# Altium schematic symbol library NXP.SchLib: 14 symbols
Pins are listed as number, name and electrical type; pins without a type are passive.

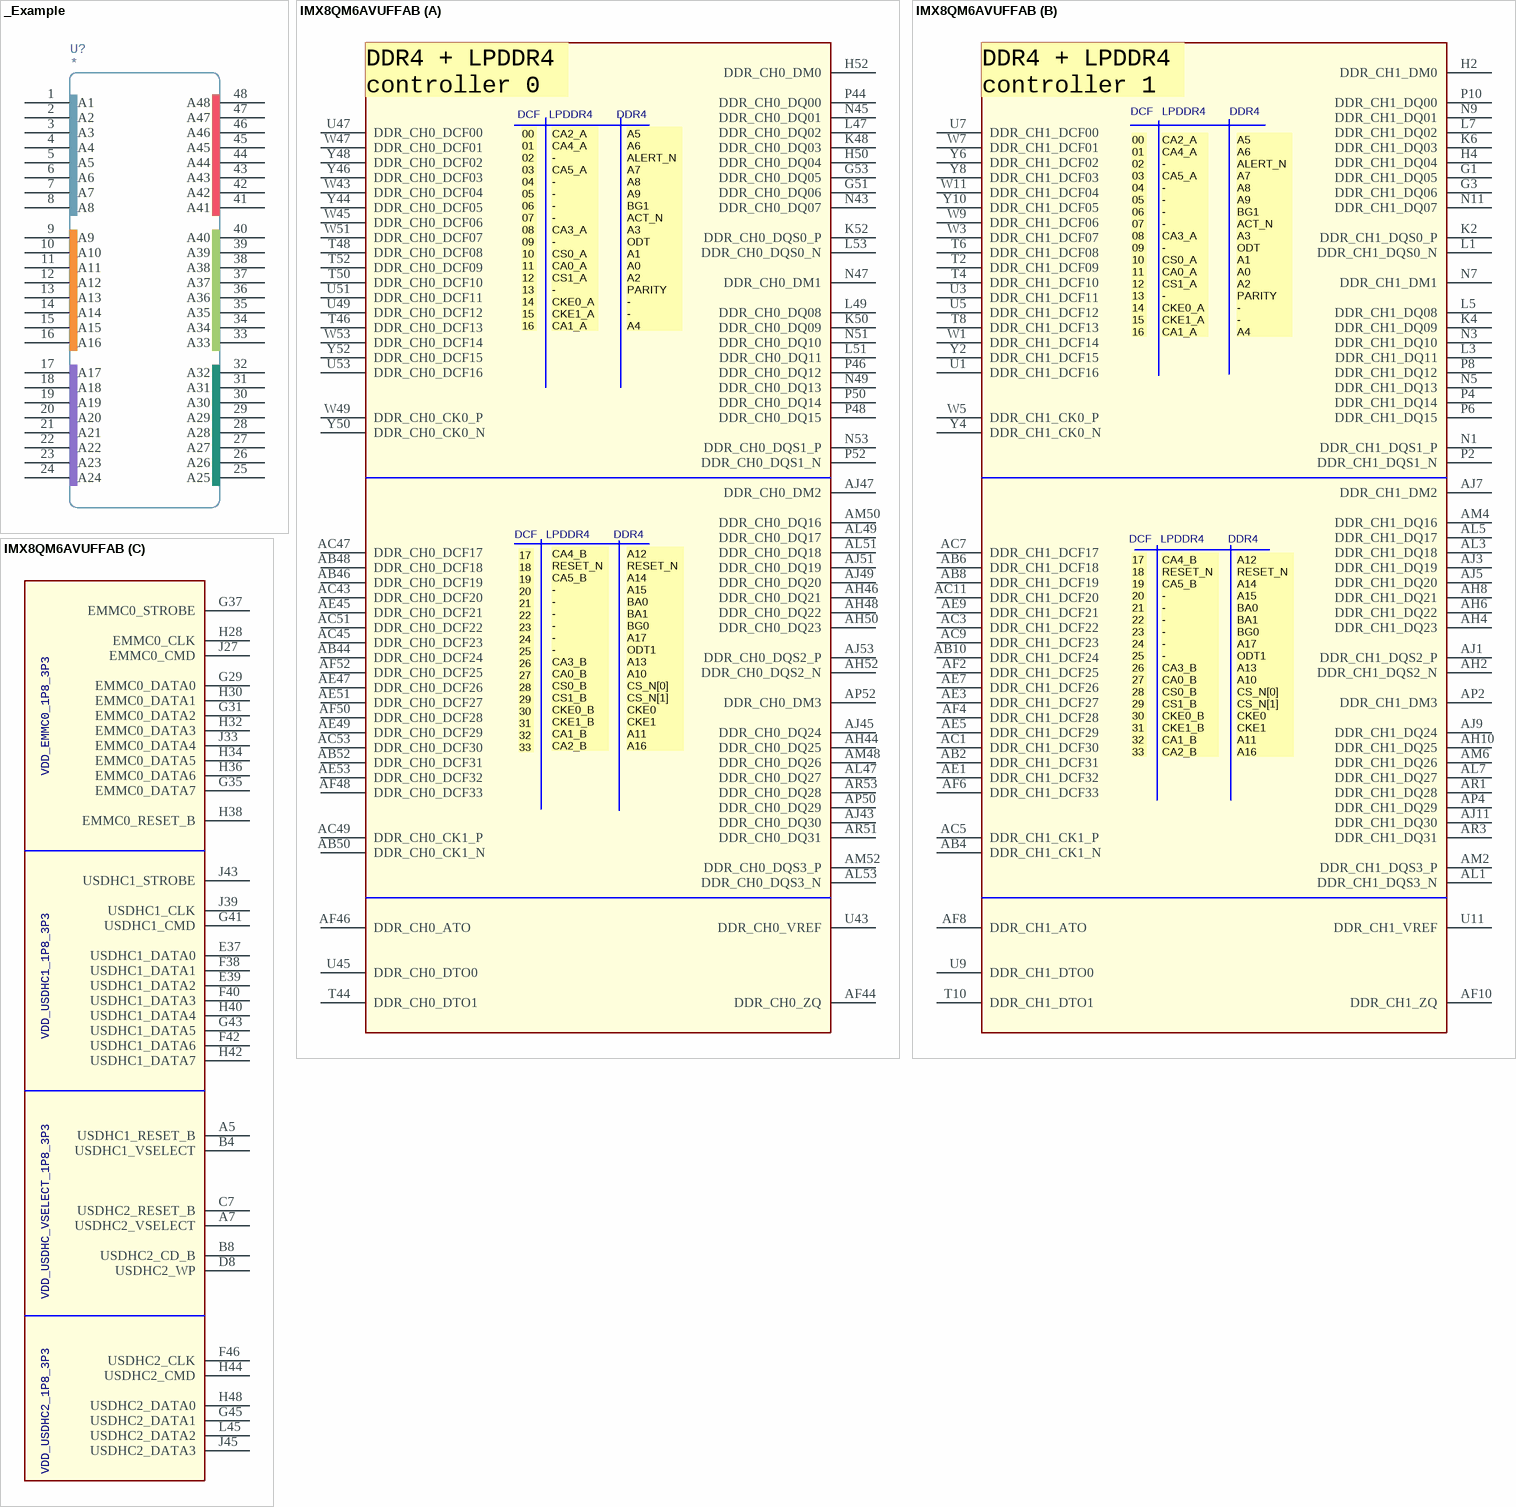
[diagram p0: symbols _Example to IMX8QM6AVUFFAB]

## _Example
designator U?
pins: 1 A1, 2 A2, 3 A3, 4 A4, 5 A5, 6 A6, 7 A7, 8 A8, 9 A9, 10 A10, 11 A11, 12 A12, 13 A13, 14 A14, 15 A15, 16 A16, 17 A17, 18 A18, 19 A19, 20 A20, 21 A21, 22 A22, 23 A23, 24 A24, 25 A25, 26 A26, 27 A27, 28 A28, 29 A29, 30 A30, 31 A31, 32 A32, 33 A33, 34 A34, 35 A35, 36 A36, 37 A37, 38 A38, 39 A39, 40 A40, 41 A41, 42 A42, 43 A43, 44 A44, 45 A45, 46 A46, 47 A47, 48 A48

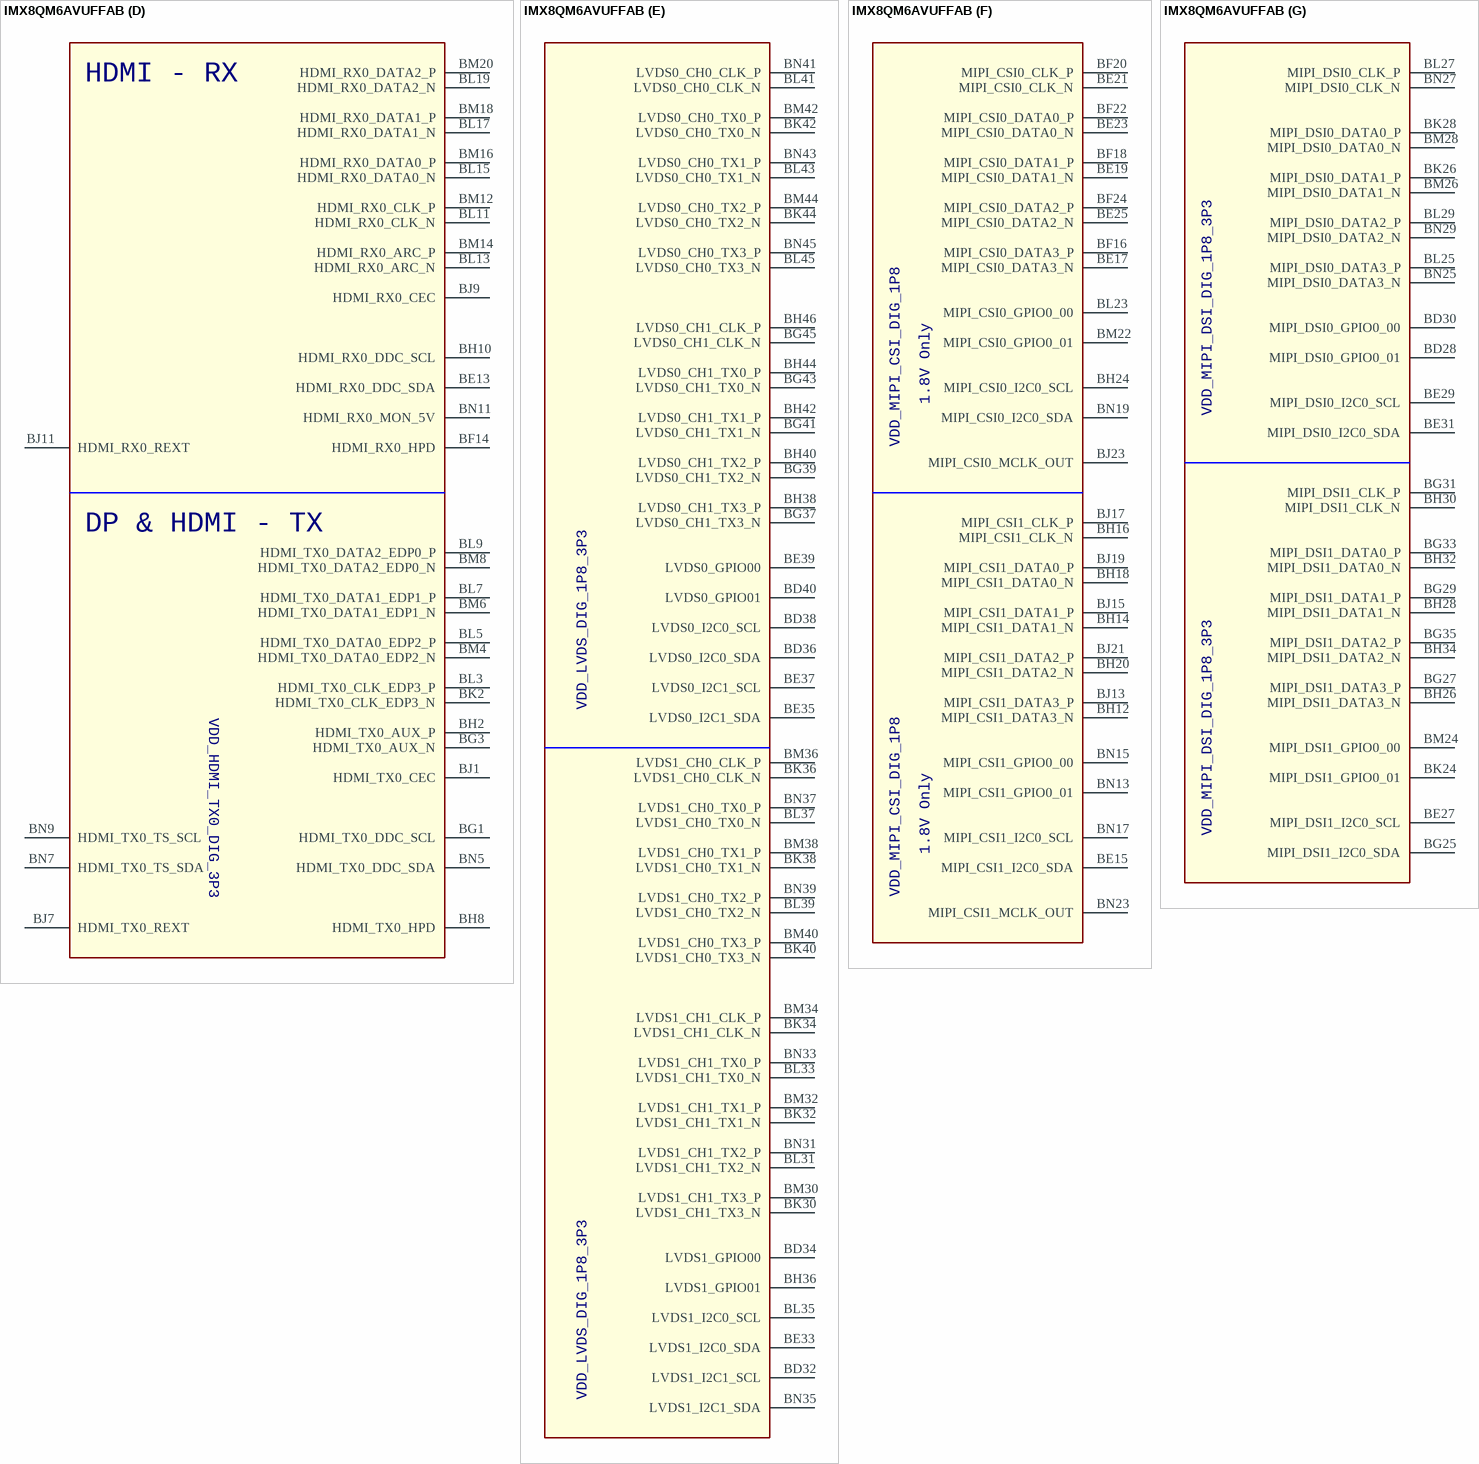
[diagram p1: symbol IMX8QM6AVUFFAB]

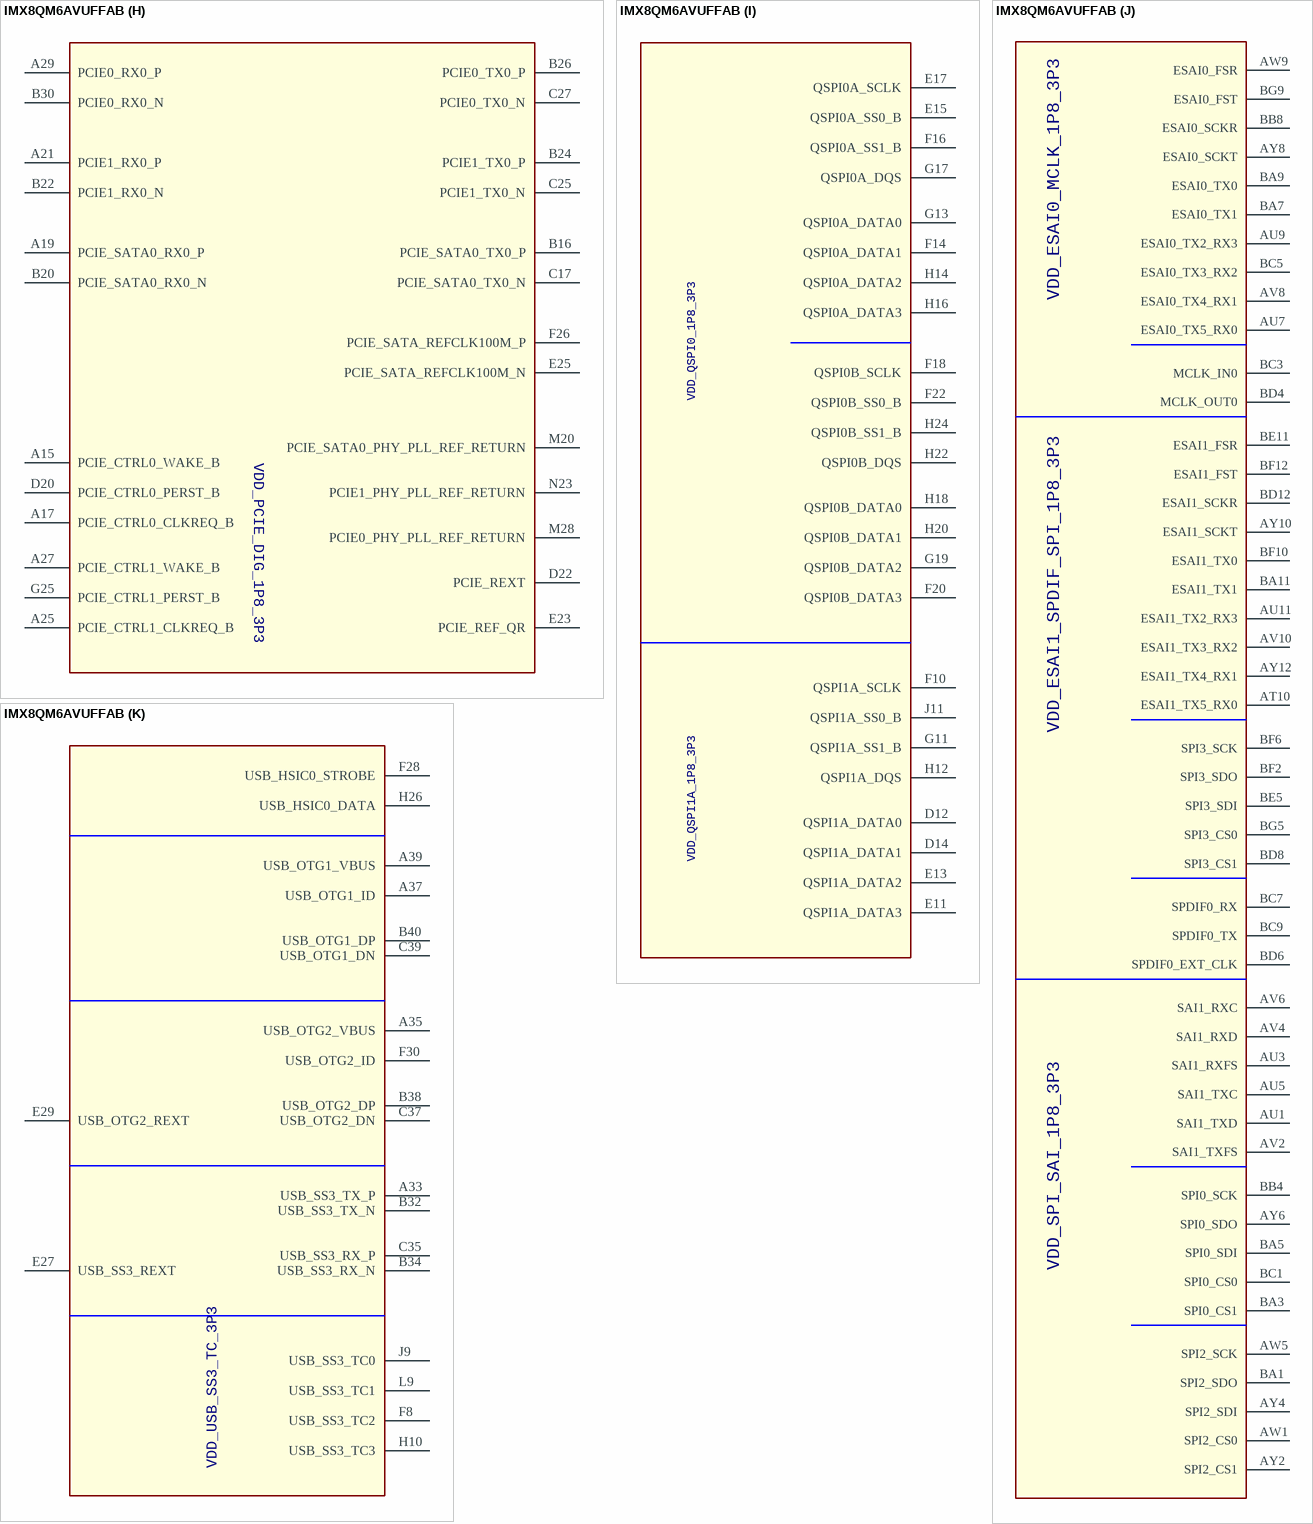
[diagram p2: symbol IMX8QM6AVUFFAB]

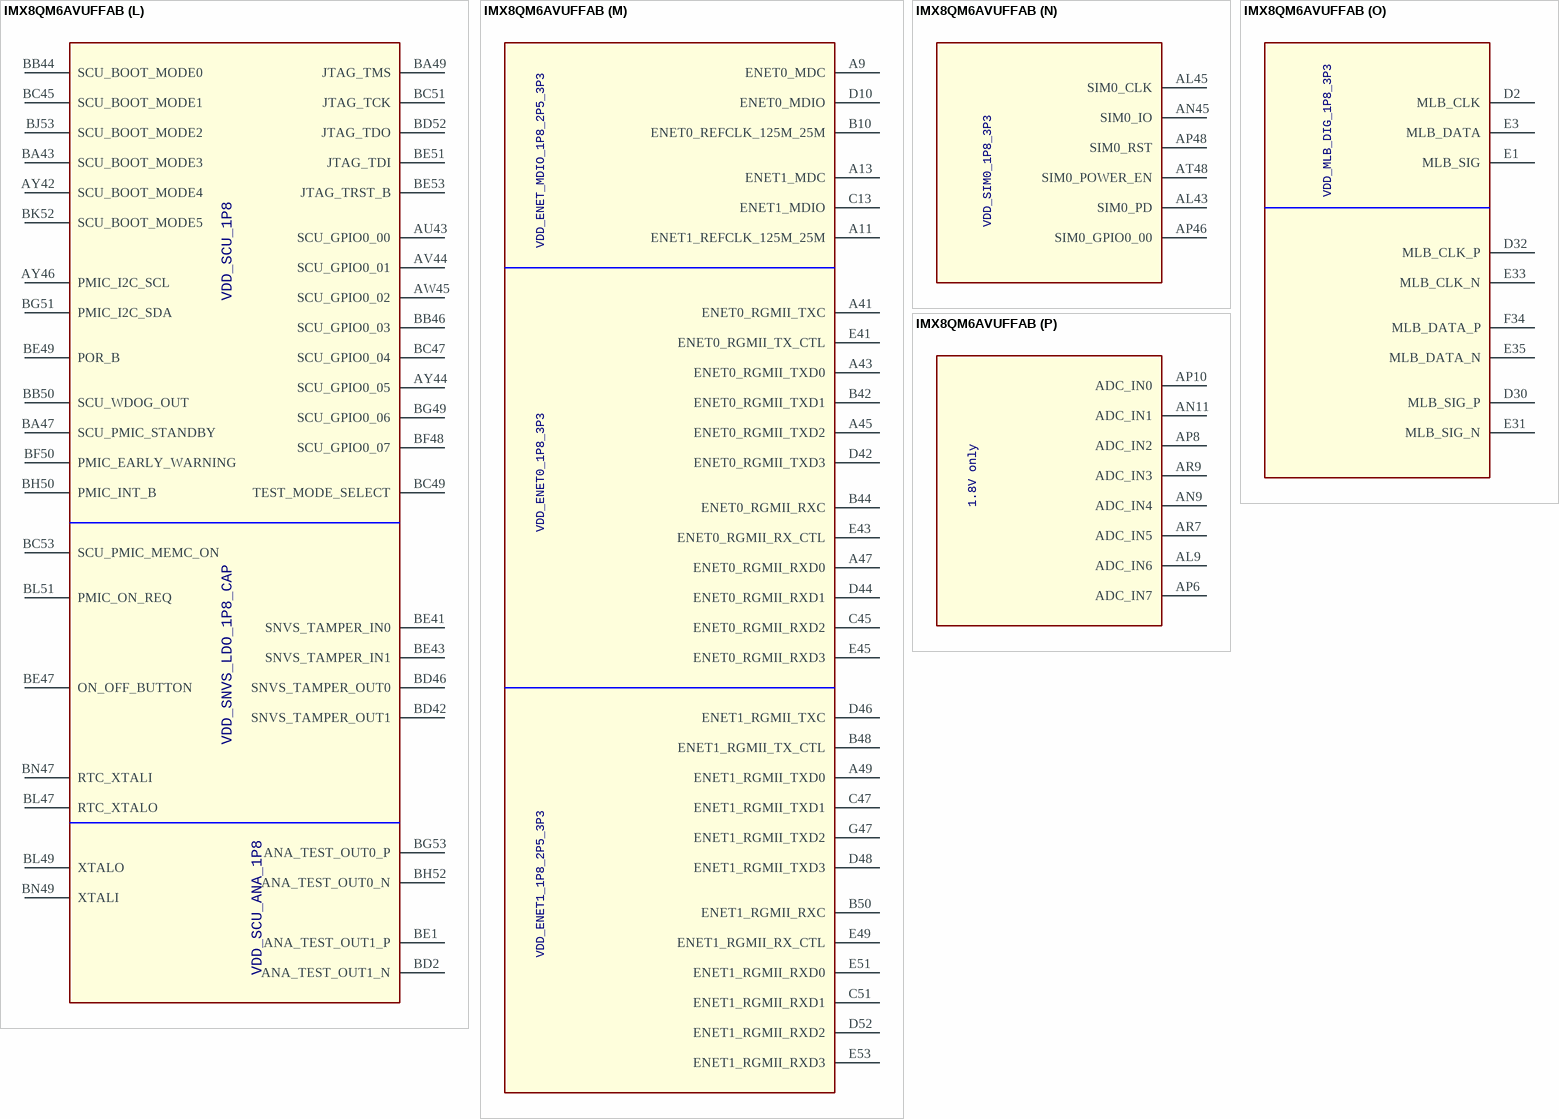
[diagram p3: symbol IMX8QM6AVUFFAB]

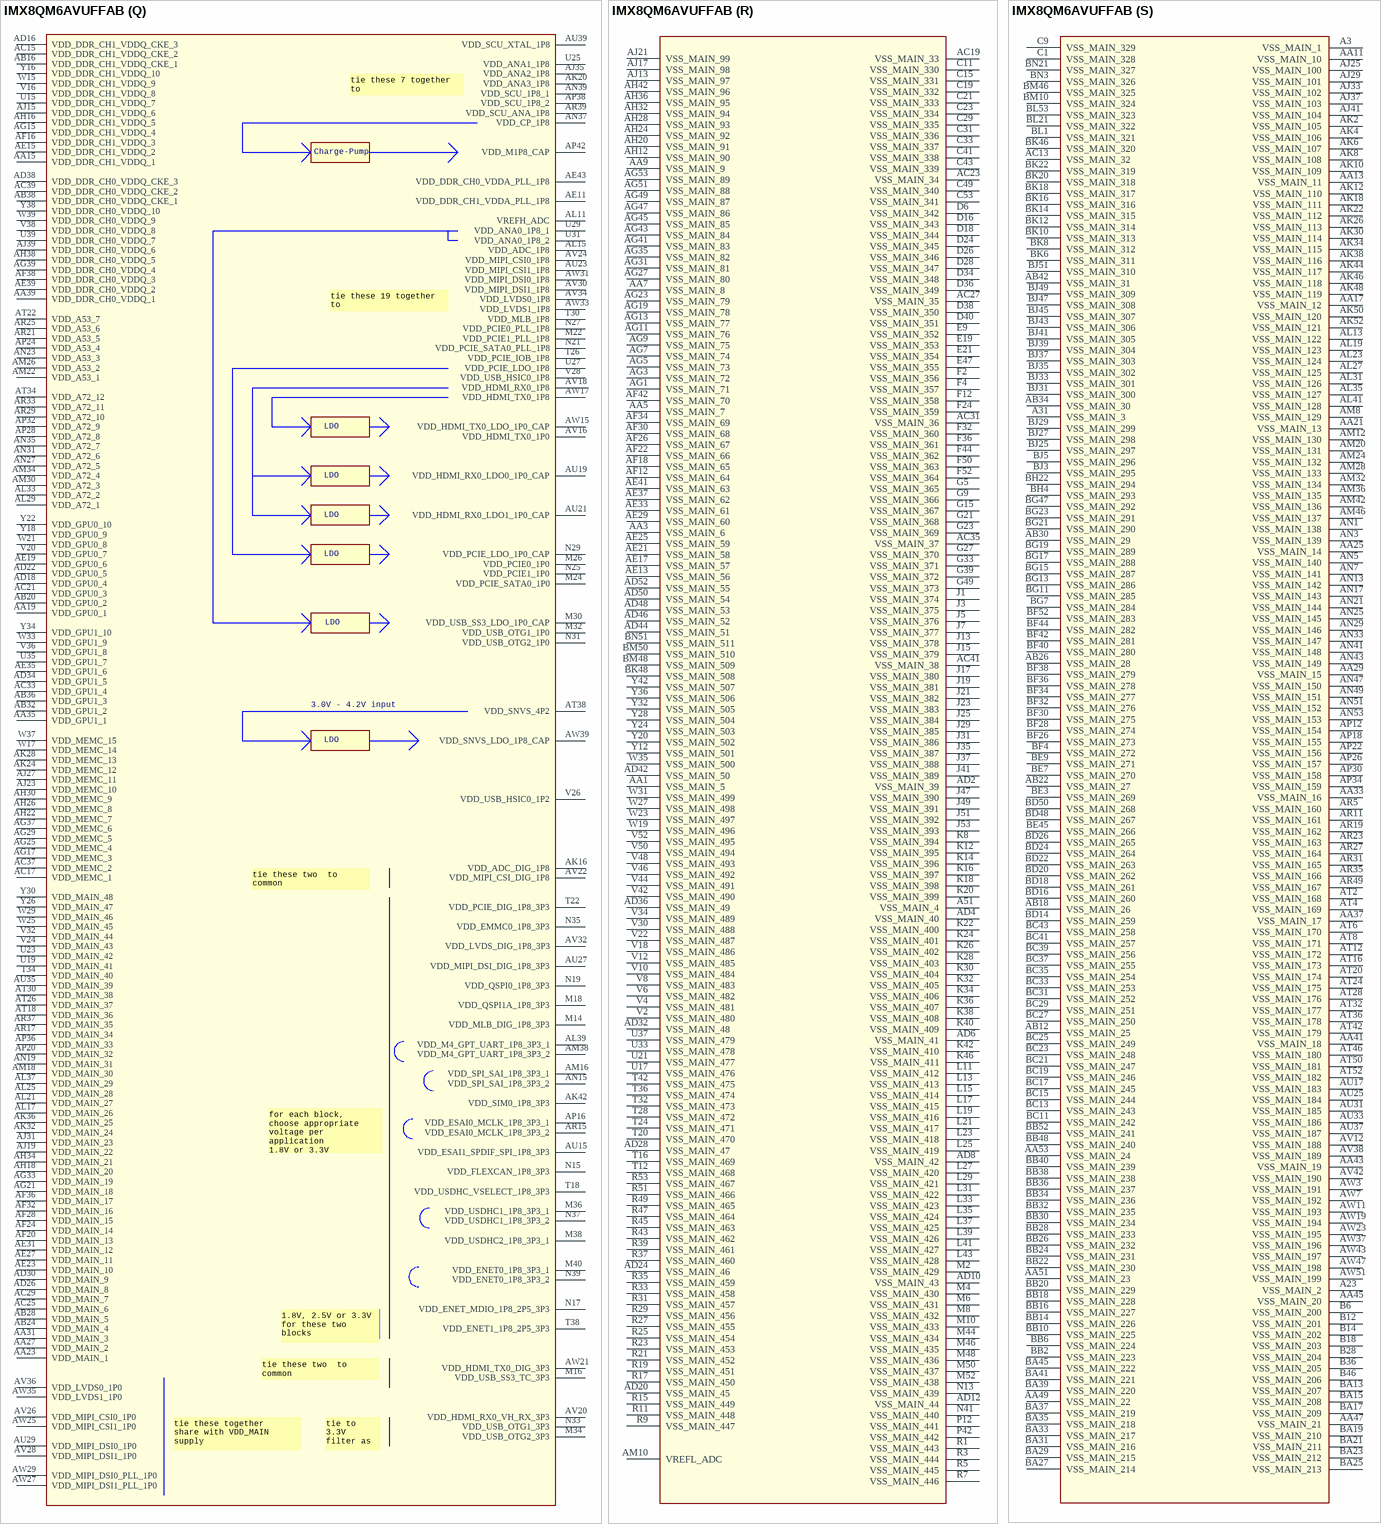
[diagram p4: symbol IMX8QM6AVUFFAB]

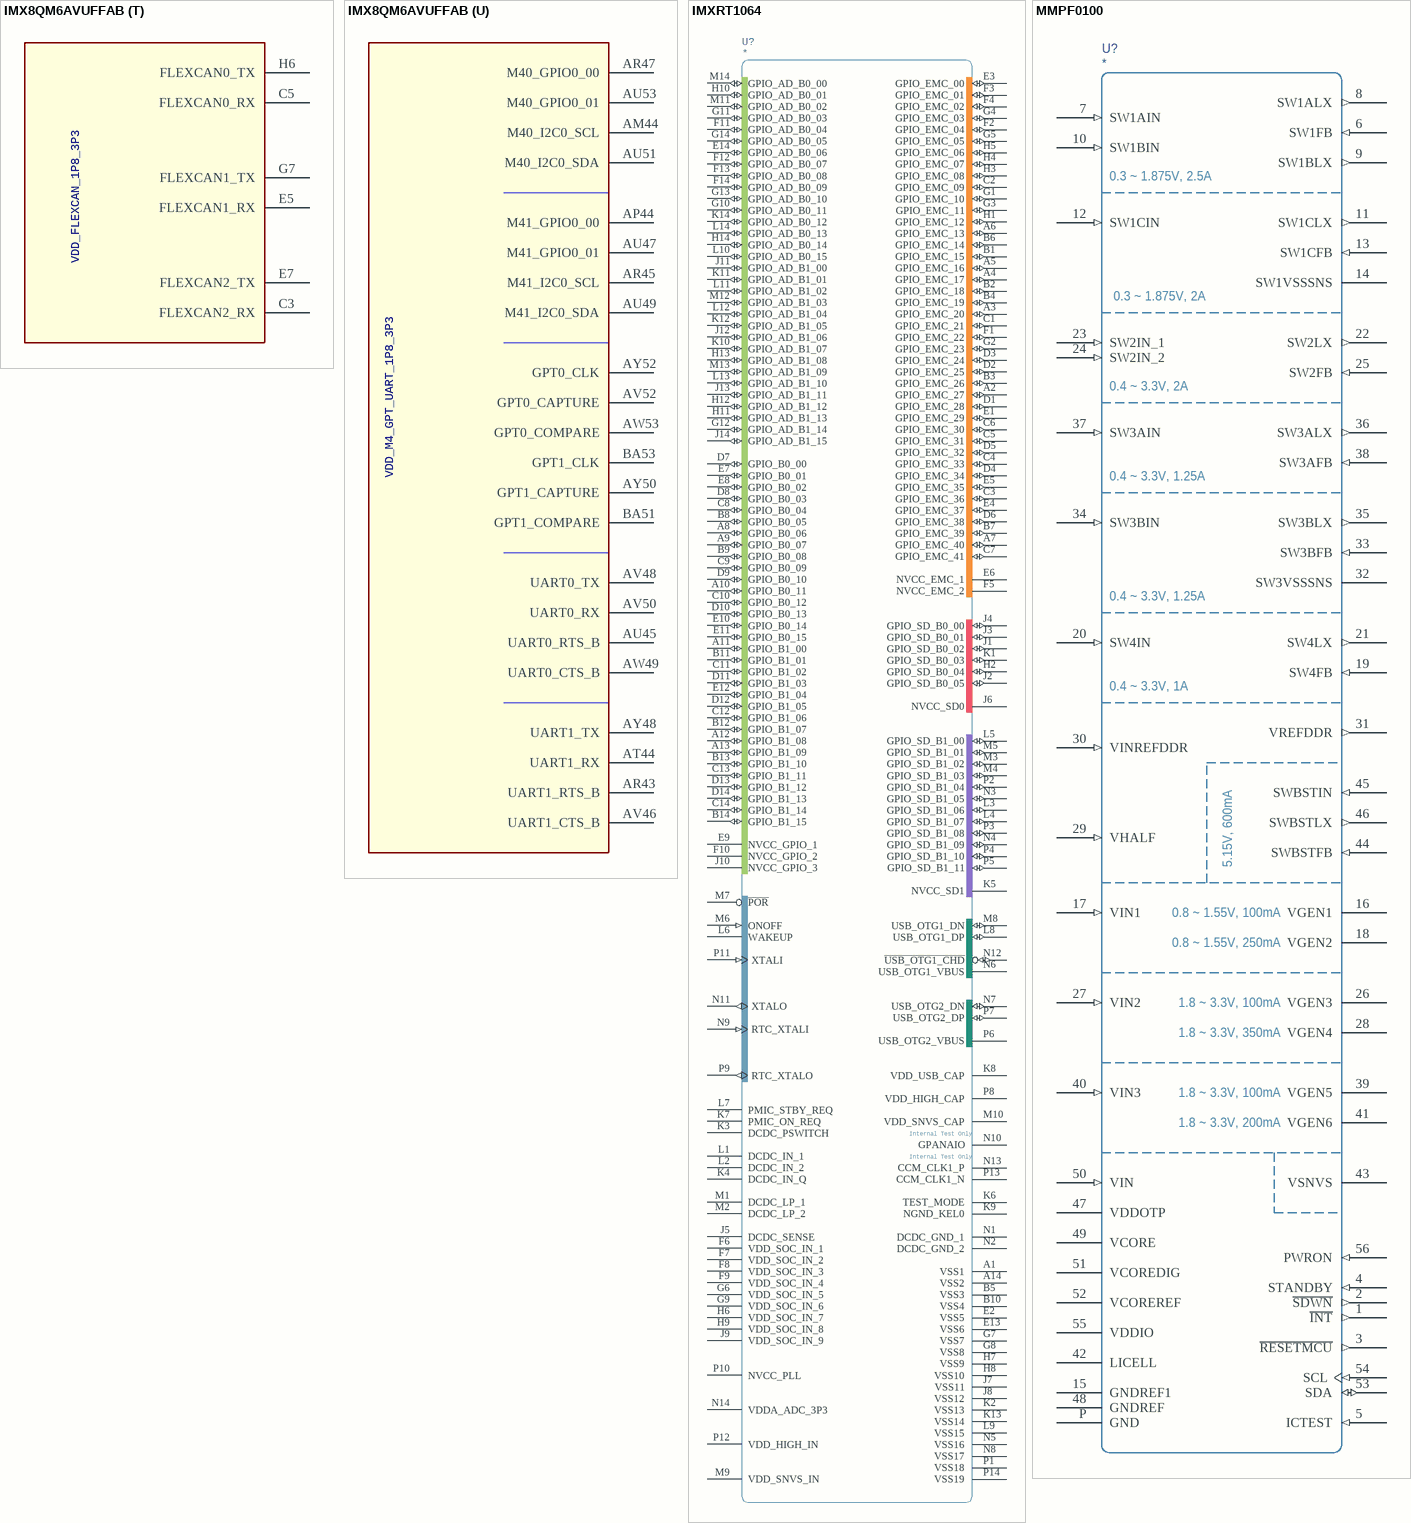
[diagram p5: symbols IMX8QM6AVUFFAB to MMPF0100]

## IMX8QM6AVUFFAB
designator U?
CLASS: IC
part A pins: AB44 DDR_CH0_DCF24, AB46 DDR_CH0_DCF19, AB48 DDR_CH0_DCF18, AB50 DDR_CH0_CK1_N, AB52 DDR_CH0_DCF31, AC43 DDR_CH0_DCF20, AC45 DDR_CH0_DCF23, AC47 DDR_CH0_DCF17, AC49 DDR_CH0_CK1_P, AC51 DDR_CH0_DCF22, AC53 DDR_CH0_DCF30, AE45 DDR_CH0_DCF21, AE47 DDR_CH0_DCF26, AE49 DDR_CH0_DCF29, AE51 DDR_CH0_DCF27, AE53 DDR_CH0_DCF32, AF44 DDR_CH0_ZQ, AF46 DDR_CH0_ATO, AF48 DDR_CH0_DCF33, AF50 DDR_CH0_DCF28, AF52 DDR_CH0_DCF25, AH44 DDR_CH0_DQ25, AH46 DDR_CH0_DQ21, AH48 DDR_CH0_DQ22, AH50 DDR_CH0_DQ23, AH52 DDR_CH0_DQS2_N, AJ43 DDR_CH0_DQ30, AJ45 DDR_CH0_DQ24, AJ47 DDR_CH0_DM2, AJ49 DDR_CH0_DQ20, AJ51 DDR_CH0_DQ19, AJ53 DDR_CH0_DQS2_P, AL47 DDR_CH0_DQ27, AL49 DDR_CH0_DQ17, AL51 DDR_CH0_DQ18, AL53 DDR_CH0_DQS3_N, AM48 DDR_CH0_DQ26, AM50 DDR_CH0_DQ16, AM52 DDR_CH0_DQS3_P, AP50 DDR_CH0_DQ29, AP52 DDR_CH0_DM3, AR51 DDR_CH0_DQ31, AR53 DDR_CH0_DQ28, G51 DDR_CH0_DQ06, G53 DDR_CH0_DQ05, H50 DDR_CH0_DQ04, H52 DDR_CH0_DM0, K48 DDR_CH0_DQ03, K50 DDR_CH0_DQ09, K52 DDR_CH0_DQS0_P, L47 DDR_CH0_DQ02, L49 DDR_CH0_DQ08, L51 DDR_CH0_DQ11, L53 DDR_CH0_DQS0_N, N43 DDR_CH0_DQ07, N45 DDR_CH0_DQ01, N47 DDR_CH0_DM1, N49 DDR_CH0_DQ13, N51 DDR_CH0_DQ10, N53 DDR_CH0_DQS1_P, P44 DDR_CH0_DQ00, P46 DDR_CH0_DQ12, P48 DDR_CH0_DQ15, P50 DDR_CH0_DQ14, P52 DDR_CH0_DQS1_N, T44 DDR_CH0_DTO1, T46 DDR_CH0_DCF13, T48 DDR_CH0_DCF08, T50 DDR_CH0_DCF10, T52 DDR_CH0_DCF09, U43 DDR_CH0_VREF, U45 DDR_CH0_DTO0, U47 DDR_CH0_DCF00, U49 DDR_CH0_DCF12, U51 DDR_CH0_DCF11, U53 DDR_CH0_DCF16, W43 DDR_CH0_DCF04, W45 DDR_CH0_DCF06, W47 DDR_CH0_DCF01, W49 DDR_CH0_CK0_P, W51 DDR_CH0_DCF07, W53 DDR_CH0_DCF14, Y44 DDR_CH0_DCF05, Y46 DDR_CH0_DCF03, Y48 DDR_CH0_DCF02, Y50 DDR_CH0_CK0_N, Y52 DDR_CH0_DCF15
part B pins: AB2 DDR_CH1_DCF31, AB4 DDR_CH1_CK1_N, AB6 DDR_CH1_DCF18, AB8 DDR_CH1_DCF19, AB10 DDR_CH1_DCF24, AC1 DDR_CH1_DCF30, AC3 DDR_CH1_DCF22, AC5 DDR_CH1_CK1_P, AC7 DDR_CH1_DCF17, AC9 DDR_CH1_DCF23, AC11 DDR_CH1_DCF20, AE1 DDR_CH1_DCF32, AE3 DDR_CH1_DCF27, AE5 DDR_CH1_DCF29, AE7 DDR_CH1_DCF26, AE9 DDR_CH1_DCF21, AF2 DDR_CH1_DCF25, AF4 DDR_CH1_DCF28, AF6 DDR_CH1_DCF33, AF8 DDR_CH1_ATO, AF10 DDR_CH1_ZQ, AH2 DDR_CH1_DQS2_N, AH4 DDR_CH1_DQ23, AH6 DDR_CH1_DQ22, AH8 DDR_CH1_DQ21, AH10 DDR_CH1_DQ25, AJ1 DDR_CH1_DQS2_P, AJ3 DDR_CH1_DQ19, AJ5 DDR_CH1_DQ20, AJ7 DDR_CH1_DM2, AJ9 DDR_CH1_DQ24, AJ11 DDR_CH1_DQ30, AL1 DDR_CH1_DQS3_N, AL3 DDR_CH1_DQ18, AL5 DDR_CH1_DQ17, AL7 DDR_CH1_DQ27, AM2 DDR_CH1_DQS3_P, AM4 DDR_CH1_DQ16, AM6 DDR_CH1_DQ26, AP2 DDR_CH1_DM3, AP4 DDR_CH1_DQ29, AR1 DDR_CH1_DQ28, AR3 DDR_CH1_DQ31, G1 DDR_CH1_DQ05, G3 DDR_CH1_DQ06, H2 DDR_CH1_DM0, H4 DDR_CH1_DQ04, K2 DDR_CH1_DQS0_P, K4 DDR_CH1_DQ09, K6 DDR_CH1_DQ03, L1 DDR_CH1_DQS0_N, L3 DDR_CH1_DQ11, L5 DDR_CH1_DQ08, L7 DDR_CH1_DQ02, N1 DDR_CH1_DQS1_P, N3 DDR_CH1_DQ10, N5 DDR_CH1_DQ13, N7 DDR_CH1_DM1, N9 DDR_CH1_DQ01, N11 DDR_CH1_DQ07, P2 DDR_CH1_DQS1_N, P4 DDR_CH1_DQ14, P6 DDR_CH1_DQ15, P8 DDR_CH1_DQ12, P10 DDR_CH1_DQ00, T2 DDR_CH1_DCF09, T4 DDR_CH1_DCF10, T6 DDR_CH1_DCF08, T8 DDR_CH1_DCF13, T10 DDR_CH1_DTO1, U1 DDR_CH1_DCF16, U3 DDR_CH1_DCF11, U5 DDR_CH1_DCF12, U7 DDR_CH1_DCF00, U9 DDR_CH1_DTO0, U11 DDR_CH1_VREF, W1 DDR_CH1_DCF14, W3 DDR_CH1_DCF07, W5 DDR_CH1_CK0_P, W7 DDR_CH1_DCF01, W9 DDR_CH1_DCF06, W11 DDR_CH1_DCF04, Y2 DDR_CH1_DCF15, Y4 DDR_CH1_CK0_N, Y6 DDR_CH1_DCF02, Y8 DDR_CH1_DCF03, Y10 DDR_CH1_DCF05
part C pins: A5 USDHC1_RESET_B, A7 USDHC2_VSELECT, B4 USDHC1_VSELECT, B8 USDHC2_CD_B, C7 USDHC2_RESET_B, D8 USDHC2_WP, E37 USDHC1_DATA0, E39 USDHC1_DATA2, F38 USDHC1_DATA1, F40 USDHC1_DATA3, F42 USDHC1_DATA6, F46 USDHC2_CLK, G29 EMMC0_DATA0, G31 EMMC0_DATA2, G35 EMMC0_DATA7, G37 EMMC0_STROBE, G41 USDHC1_CMD, G43 USDHC1_DATA5, G45 USDHC2_DATA1, H28 EMMC0_CLK, H30 EMMC0_DATA1, H32 EMMC0_DATA3, H34 EMMC0_DATA5, H36 EMMC0_DATA6, H38 EMMC0_RESET_B, H40 USDHC1_DATA4, H42 USDHC1_DATA7, H44 USDHC2_CMD, H48 USDHC2_DATA0, J27 EMMC0_CMD, J33 EMMC0_DATA4, J39 USDHC1_CLK, J43 USDHC1_STROBE, J45 USDHC2_DATA3, L45 USDHC2_DATA2
part D pins: BE13 HDMI_RX0_DDC_SDA, BF14 HDMI_RX0_HPD, BG1 HDMI_TX0_DDC_SCL, BG3 HDMI_TX0_AUX_N, BH2 HDMI_TX0_AUX_P, BH8 HDMI_TX0_HPD, BH10 HDMI_RX0_DDC_SCL, BJ1 HDMI_TX0_CEC, BJ7 HDMI_TX0_REXT, BJ9 HDMI_RX0_CEC, BJ11 HDMI_RX0_REXT, BK2 HDMI_TX0_CLK_EDP3_N, BL3 HDMI_TX0_CLK_EDP3_P, BL5 HDMI_TX0_DATA0_EDP2_P, BL7 HDMI_TX0_DATA1_EDP1_P, BL9 HDMI_TX0_DATA2_EDP0_P, BL11 HDMI_RX0_CLK_N, BL13 HDMI_RX0_ARC_N, BL15 HDMI_RX0_DATA0_N, BL17 HDMI_RX0_DATA1_N, BL19 HDMI_RX0_DATA2_N, BM4 HDMI_TX0_DATA0_EDP2_N, BM6 HDMI_TX0_DATA1_EDP1_N, BM8 HDMI_TX0_DATA2_EDP0_N, BM12 HDMI_RX0_CLK_P, BM14 HDMI_RX0_ARC_P, BM16 HDMI_RX0_DATA0_P, BM18 HDMI_RX0_DATA1_P, BM20 HDMI_RX0_DATA2_P, BN5 HDMI_TX0_DDC_SDA, BN7 HDMI_TX0_TS_SDA, BN9 HDMI_TX0_TS_SCL, BN11 HDMI_RX0_MON_5V
part E pins: BD32 LVDS1_I2C1_SCL, BD34 LVDS1_GPIO00, BD36 LVDS0_I2C0_SDA, BD38 LVDS0_I2C0_SCL, BD40 LVDS0_GPIO01, BE33 LVDS1_I2C0_SDA, BE35 LVDS0_I2C1_SDA, BE37 LVDS0_I2C1_SCL, BE39 LVDS0_GPIO00, BG37 LVDS0_CH1_TX3_N, BG39 LVDS0_CH1_TX2_N, BG41 LVDS0_CH1_TX1_N, BG43 LVDS0_CH1_TX0_N, BG45 LVDS0_CH1_CLK_N, BH36 LVDS1_GPIO01, BH38 LVDS0_CH1_TX3_P, BH40 LVDS0_CH1_TX2_P, BH42 LVDS0_CH1_TX1_P, BH44 LVDS0_CH1_TX0_P, BH46 LVDS0_CH1_CLK_P, BK30 LVDS1_CH1_TX3_N, BK32 LVDS1_CH1_TX1_N, BK34 LVDS1_CH1_CLK_N, BK36 LVDS1_CH0_CLK_N, BK38 LVDS1_CH0_TX1_N, BK40 LVDS1_CH0_TX3_N, BK42 LVDS0_CH0_TX0_N, BK44 LVDS0_CH0_TX2_N, BL31 LVDS1_CH1_TX2_N, BL33 LVDS1_CH1_TX0_N, BL35 LVDS1_I2C0_SCL, BL37 LVDS1_CH0_TX0_N, BL39 LVDS1_CH0_TX2_N, BL41 LVDS0_CH0_CLK_N, BL43 LVDS0_CH0_TX1_N, BL45 LVDS0_CH0_TX3_N, BM30 LVDS1_CH1_TX3_P, BM32 LVDS1_CH1_TX1_P, BM34 LVDS1_CH1_CLK_P, BM36 LVDS1_CH0_CLK_P, BM38 LVDS1_CH0_TX1_P, BM40 LVDS1_CH0_TX3_P, BM42 LVDS0_CH0_TX0_P, BM44 LVDS0_CH0_TX2_P, BN31 LVDS1_CH1_TX2_P, BN33 LVDS1_CH1_TX0_P, BN35 LVDS1_I2C1_SDA, BN37 LVDS1_CH0_TX0_P, BN39 LVDS1_CH0_TX2_P, BN41 LVDS0_CH0_CLK_P, BN43 LVDS0_CH0_TX1_P, BN45 LVDS0_CH0_TX3_P
part F pins: BE15 MIPI_CSI1_I2C0_SDA, BE17 MIPI_CSI0_DATA3_N, BE19 MIPI_CSI0_DATA1_N, BE21 MIPI_CSI0_CLK_N, BE23 MIPI_CSI0_DATA0_N, BE25 MIPI_CSI0_DATA2_N, BF16 MIPI_CSI0_DATA3_P, BF18 MIPI_CSI0_DATA1_P, BF20 MIPI_CSI0_CLK_P, BF22 MIPI_CSI0_DATA0_P, BF24 MIPI_CSI0_DATA2_P, BH12 MIPI_CSI1_DATA3_N, BH14 MIPI_CSI1_DATA1_N, BH16 MIPI_CSI1_CLK_N, BH18 MIPI_CSI1_DATA0_N, BH20 MIPI_CSI1_DATA2_N, BH24 MIPI_CSI0_I2C0_SCL, BJ13 MIPI_CSI1_DATA3_P, BJ15 MIPI_CSI1_DATA1_P, BJ17 MIPI_CSI1_CLK_P, BJ19 MIPI_CSI1_DATA0_P, BJ21 MIPI_CSI1_DATA2_P, BJ23 MIPI_CSI0_MCLK_OUT, BL23 MIPI_CSI0_GPIO0_00, BM22 MIPI_CSI0_GPIO0_01, BN13 MIPI_CSI1_GPIO0_01, BN15 MIPI_CSI1_GPIO0_00, BN17 MIPI_CSI1_I2C0_SCL, BN19 MIPI_CSI0_I2C0_SDA, BN23 MIPI_CSI1_MCLK_OUT
part G pins: BD28 MIPI_DSI0_GPIO0_01, BD30 MIPI_DSI0_GPIO0_00, BE27 MIPI_DSI1_I2C0_SCL, BE29 MIPI_DSI0_I2C0_SCL, BE31 MIPI_DSI0_I2C0_SDA, BG25 MIPI_DSI1_I2C0_SDA, BG27 MIPI_DSI1_DATA3_P, BG29 MIPI_DSI1_DATA1_P, BG31 MIPI_DSI1_CLK_P, BG33 MIPI_DSI1_DATA0_P, BG35 MIPI_DSI1_DATA2_P, BH26 MIPI_DSI1_DATA3_N, BH28 MIPI_DSI1_DATA1_N, BH30 MIPI_DSI1_CLK_N, BH32 MIPI_DSI1_DATA0_N, BH34 MIPI_DSI1_DATA2_N, BK24 MIPI_DSI1_GPIO0_01, BK26 MIPI_DSI0_DATA1_P, BK28 MIPI_DSI0_DATA0_P, BL25 MIPI_DSI0_DATA3_P, BL27 MIPI_DSI0_CLK_P, BL29 MIPI_DSI0_DATA2_P, BM24 MIPI_DSI1_GPIO0_00, BM26 MIPI_DSI0_DATA1_N, BM28 MIPI_DSI0_DATA0_N, BN25 MIPI_DSI0_DATA3_N, BN27 MIPI_DSI0_CLK_N, BN29 MIPI_DSI0_DATA2_N
part H pins: A15 PCIE_CTRL0_WAKE_B, A17 PCIE_CTRL0_CLKREQ_B, A19 PCIE_SATA0_RX0_P, A21 PCIE1_RX0_P, A25 PCIE_CTRL1_CLKREQ_B, A27 PCIE_CTRL1_WAKE_B, A29 PCIE0_RX0_P, B16 PCIE_SATA0_TX0_P, B20 PCIE_SATA0_RX0_N, B22 PCIE1_RX0_N, B24 PCIE1_TX0_P, B26 PCIE0_TX0_P, B30 PCIE0_RX0_N, C17 PCIE_SATA0_TX0_N, C25 PCIE1_TX0_N, C27 PCIE0_TX0_N, D20 PCIE_CTRL0_PERST_B, D22 PCIE_REXT, E23 PCIE_REF_QR, E25 PCIE_SATA_REFCLK100M_N, F26 PCIE_SATA_REFCLK100M_P, G25 PCIE_CTRL1_PERST_B, M20 PCIE_SATA0_PHY_PLL_REF_RETURN, M28 PCIE0_PHY_PLL_REF_RETURN, N23 PCIE1_PHY_PLL_REF_RETURN
part I pins: D12 QSPI1A_DATA0, D14 QSPI1A_DATA1, E11 QSPI1A_DATA3, E13 QSPI1A_DATA2, E15 QSPI0A_SS0_B, E17 QSPI0A_SCLK, F10 QSPI1A_SCLK, F14 QSPI0A_DATA1, F16 QSPI0A_SS1_B, F18 QSPI0B_SCLK, F20 QSPI0B_DATA3, F22 QSPI0B_SS0_B, G11 QSPI1A_SS1_B, G13 QSPI0A_DATA0, G17 QSPI0A_DQS, G19 QSPI0B_DATA2, H12 QSPI1A_DQS, H14 QSPI0A_DATA2, H16 QSPI0A_DATA3, H18 QSPI0B_DATA0, H20 QSPI0B_DATA1, H22 QSPI0B_DQS, H24 QSPI0B_SS1_B, J11 QSPI1A_SS0_B
part J pins: AT10 ESAI1_TX5_RX0, AU1 SAI1_TXD, AU3 SAI1_RXFS, AU5 SAI1_TXC, AU7 ESAI0_TX5_RX0, AU9 ESAI0_TX2_RX3, AU11 ESAI1_TX2_RX3, AV2 SAI1_TXFS, AV4 SAI1_RXD, AV6 SAI1_RXC, AV8 ESAI0_TX4_RX1, AV10 ESAI1_TX3_RX2, AW1 SPI2_CS0, AW5 SPI2_SCK, AW9 ESAI0_FSR, AY2 SPI2_CS1, AY4 SPI2_SDI, AY6 SPI0_SDO, AY8 ESAI0_SCKT, AY10 ESAI1_SCKT, AY12 ESAI1_TX4_RX1, BA1 SPI2_SDO, BA3 SPI0_CS1, BA5 SPI0_SDI, BA7 ESAI0_TX1, BA9 ESAI0_TX0, BA11 ESAI1_TX1, BB4 SPI0_SCK, BB8 ESAI0_SCKR, BC1 SPI0_CS0, BC3 MCLK_IN0, BC5 ESAI0_TX3_RX2, BC7 SPDIF0_RX, BC9 SPDIF0_TX, BD4 MCLK_OUT0, BD6 SPDIF0_EXT_CLK, BD8 SPI3_CS1, BD12 ESAI1_SCKR, BE5 SPI3_SDI, BE11 ESAI1_FSR, BF2 SPI3_SDO, BF6 SPI3_SCK, BF10 ESAI1_TX0, BF12 ESAI1_FST, BG5 SPI3_CS0, BG9 ESAI0_FST
part K pins: A33 USB_SS3_TX_P, A35 USB_OTG2_VBUS, A37 USB_OTG1_ID, A39 USB_OTG1_VBUS, B32 USB_SS3_TX_N, B34 USB_SS3_RX_N, B38 USB_OTG2_DP, B40 USB_OTG1_DP, C35 USB_SS3_RX_P, C37 USB_OTG2_DN, C39 USB_OTG1_DN, E27 USB_SS3_REXT, E29 USB_OTG2_REXT, F8 USB_SS3_TC2, F28 USB_HSIC0_STROBE, F30 USB_OTG2_ID, H10 USB_SS3_TC3, H26 USB_HSIC0_DATA, J9 USB_SS3_TC0, L9 USB_SS3_TC1
part L pins: AU43 SCU_GPIO0_00, AV44 SCU_GPIO0_01, AW45 SCU_GPIO0_02, AY42 SCU_BOOT_MODE4, AY44 SCU_GPIO0_05, AY46 PMIC_I2C_SCL, BA43 SCU_BOOT_MODE3, BA47 SCU_PMIC_STANDBY, BA49 JTAG_TMS, BB44 SCU_BOOT_MODE0, BB46 SCU_GPIO0_03, BB50 SCU_WDOG_OUT, BC45 SCU_BOOT_MODE1, BC47 SCU_GPIO0_04, BC49 TEST_MODE_SELECT, BC51 JTAG_TCK, BC53 SCU_PMIC_MEMC_ON, BD2 ANA_TEST_OUT1_N, BD42 SNVS_TAMPER_OUT1, BD46 SNVS_TAMPER_OUT0, BD52 JTAG_TDO, BE1 ANA_TEST_OUT1_P, BE41 SNVS_TAMPER_IN0, BE43 SNVS_TAMPER_IN1, BE47 ON_OFF_BUTTON, BE49 POR_B, BE51 JTAG_TDI, BE53 JTAG_TRST_B, BF48 SCU_GPIO0_07, BF50 PMIC_EARLY_WARNING, BG49 SCU_GPIO0_06, BG51 PMIC_I2C_SDA, BG53 ANA_TEST_OUT0_P, BH50 PMIC_INT_B, BH52 ANA_TEST_OUT0_N, BJ53 SCU_BOOT_MODE2, BK52 SCU_BOOT_MODE5, BL47 RTC_XTALO, BL49 XTALO, BL51 PMIC_ON_REQ, BN47 RTC_XTALI, BN49 XTALI
part M pins: A9 ENET0_MDC, A11 ENET1_REFCLK_125M_25M, A13 ENET1_MDC, A41 ENET0_RGMII_TXC, A43 ENET0_RGMII_TXD0, A45 ENET0_RGMII_TXD2, A47 ENET0_RGMII_RXD0, A49 ENET1_RGMII_TXD0, B10 ENET0_REFCLK_125M_25M, B42 ENET0_RGMII_TXD1, B44 ENET0_RGMII_RXC, B48 ENET1_RGMII_TX_CTL, B50 ENET1_RGMII_RXC, C13 ENET1_MDIO, C45 ENET0_RGMII_RXD2, C47 ENET1_RGMII_TXD1, C51 ENET1_RGMII_RXD1, D10 ENET0_MDIO, D42 ENET0_RGMII_TXD3, D44 ENET0_RGMII_RXD1, D46 ENET1_RGMII_TXC, D48 ENET1_RGMII_TXD3, D52 ENET1_RGMII_RXD2, E41 ENET0_RGMII_TX_CTL, E43 ENET0_RGMII_RX_CTL, E45 ENET0_RGMII_RXD3, E49 ENET1_RGMII_RX_CTL, E51 ENET1_RGMII_RXD0, E53 ENET1_RGMII_RXD3, G47 ENET1_RGMII_TXD2
part N pins: AL43 SIM0_PD, AL45 SIM0_CLK, AN45 SIM0_IO, AP46 SIM0_GPIO0_00, AP48 SIM0_RST, AT48 SIM0_POWER_EN
part O pins: D2 MLB_CLK, D30 MLB_SIG_P, D32 MLB_CLK_P, E1 MLB_SIG, E3 MLB_DATA, E31 MLB_SIG_N, E33 MLB_CLK_N, E35 MLB_DATA_N, F34 MLB_DATA_P
part P pins: AL9 ADC_IN6, AN9 ADC_IN4, AN11 ADC_IN1, AP6 ADC_IN7, AP8 ADC_IN2, AP10 ADC_IN0, AR7 ADC_IN5, AR9 ADC_IN3
part Q pins: AA15 VDD_DDR_CH1_VDDQ_1, AA19 VDD_GPU0_1, AA23 VDD_MAIN_1, AA27 VDD_MAIN_2, AA31 VDD_MAIN_3, AA35 VDD_GPU1_1, AA39 VDD_DDR_CH0_VDDQ_1, AB16 VDD_DDR_CH1_VDDQ_CKE_1, AB20 VDD_GPU0_2, AB24 VDD_MAIN_4, AB28 VDD_MAIN_5, AB32 VDD_GPU1_2, AB36 VDD_GPU1_3, AB38 VDD_DDR_CH0_VDDQ_CKE_1, AC15 VDD_DDR_CH1_VDDQ_CKE_2, AC17 VDD_MEMC_1, AC21 VDD_GPU0_3, AC25 VDD_MAIN_6, AC29 VDD_MAIN_7, AC33 VDD_GPU1_4, AC37 VDD_MEMC_2, AC39 VDD_DDR_CH0_VDDQ_CKE_2, AD16 VDD_DDR_CH1_VDDQ_CKE_3, AD18 VDD_GPU0_4, AD22 VDD_GPU0_5, AD26 VDD_MAIN_8, AD30 VDD_MAIN_9, AD34 VDD_GPU1_5, AD38 VDD_DDR_CH0_VDDQ_CKE_3, AE11 VDD_DDR_CH1_VDDA_PLL_1P8, AE15 VDD_DDR_CH1_VDDQ_2, AE19 VDD_GPU0_6, AE23 VDD_MAIN_10, AE27 VDD_MAIN_11, AE31 VDD_MAIN_12, AE35 VDD_GPU1_6, AE39 VDD_DDR_CH0_VDDQ_2, AE43 VDD_DDR_CH0_VDDA_PLL_1P8, AF16 VDD_DDR_CH1_VDDQ_3, AF20 VDD_MAIN_13, AF24 VDD_MAIN_14, AF28 VDD_MAIN_15, AF32 VDD_MAIN_16, AF36 VDD_MAIN_17, AF38 VDD_DDR_CH0_VDDQ_3, AG15 VDD_DDR_CH1_VDDQ_4, AG17 VDD_MEMC_3, AG21 VDD_MAIN_18, AG25 VDD_MEMC_4, AG29 VDD_MEMC_5, AG33 VDD_MAIN_19, AG37 VDD_MEMC_6, AG39 VDD_DDR_CH0_VDDQ_4, AH16 VDD_DDR_CH1_VDDQ_5, AH18 VDD_MAIN_20, AH22 VDD_MEMC_7, AH26 VDD_MEMC_8, AH30 VDD_MEMC_9, AH34 VDD_MAIN_21, AH38 VDD_DDR_CH0_VDDQ_5, AJ15 VDD_DDR_CH1_VDDQ_6, AJ19 VDD_MAIN_22, AJ23 VDD_MEMC_10, AJ27 VDD_MEMC_11, AJ31 VDD_MAIN_23, AJ35 VDD_ANA2_1P8, AJ39 VDD_DDR_CH0_VDDQ_6, AK16 VDD_ADC_DIG_1P8, AK20 VDD_ANA3_1P8, AK24 VDD_MEMC_12, AK28 VDD_MEMC_13, AK32 VDD_MAIN_24, AK36 VDD_MAIN_25, AK42 VDD_SIM0_1P8_3P3, AL11 VREFH_ADC, AL15 VDD_ADC_1P8, AL17 VDD_MAIN_26, AL21 VDD_MAIN_27, AL25 VDD_MAIN_28, AL29 VDD_A72_1, AL33 VDD_A72_2, AL37 VDD_MAIN_29, AL39 VDD_M4_GPT_UART_1P8_3P3_1, AM16 VDD_SPI_SAI_1P8_3P3_1, AM18 VDD_MAIN_30, AM22 VDD_A53_1, AM26 VDD_A53_2, AM30 VDD_A72_3, AM34 VDD_A72_4, AM38 VDD_M4_GPT_UART_1P8_3P3_2, AN15 VDD_SPI_SAI_1P8_3P3_2, AN19 VDD_MAIN_31, AN23 VDD_A53_3, AN27 VDD_A72_5, AN31 VDD_A72_6, AN35 VDD_A72_7, AN37 VDD_CP_1P8, AN39 VDD_SCU_1P8_1, AP16 VDD_ESAI0_MCLK_1P8_3P3_1, AP20 VDD_MAIN_32, AP24 VDD_A53_4, AP28 VDD_A72_8, AP32 VDD_A72_9, AP36 VDD_MAIN_33, AP38 VDD_SCU_1P8_2, AP42 VDD_M1P8_CAP, AR15 VDD_ESAI0_MCLK_1P8_3P3_2, AR17 VDD_MAIN_34, AR21 VDD_A53_5, AR25 VDD_A53_6, AR29 VDD_A72_10, AR33 VDD_A72_11, AR37 VDD_MAIN_35, AR39 VDD_SCU_ANA_1P8, AT18 VDD_MAIN_36, AT22 VDD_A53_7, AT26 VDD_MAIN_37, AT30 VDD_MAIN_38, AT34 VDD_A72_12, AT38 VDD_SNVS_4P2, AU15 VDD_ESAI1_SPDIF_SPI_1P8_3P3, AU19 VDD_HDMI_RX0_LDO0_1P0_CAP, AU21 VDD_HDMI_RX0_LDO1_1P0_CAP, AU23 VDD_MIPI_CSI1_1P8, AU27 VDD_MIPI_DSI_DIG_1P8_3P3, AU29 VDD_MIPI_DSI0_1P0, AU35 VDD_MAIN_39, AU39 VDD_SCU_XTAL_1P8, AV16 VDD_HDMI_TX0_1P0, AV18 VDD_HDMI_RX0_1P8, AV20 VDD_HDMI_RX0_VH_RX_3P3, AV22 VDD_MIPI_CSI_DIG_1P8, AV24 VDD_MIPI_CSI0_1P8, AV26 VDD_MIPI_CSI0_1P0, AV28 VDD_MIPI_DSI1_1P0, AV30 VDD_MIPI_DSI1_1P8, AV32 VDD_LVDS_DIG_1P8_3P3, AV34 VDD_LVDS0_1P8, AV36 VDD_LVDS0_1P0, AW15 VDD_HDMI_TX0_LDO_1P0_CAP, AW17 VDD_HDMI_TX0_1P8, AW21 VDD_HDMI_TX0_DIG_3P3, AW25 VDD_MIPI_CSI1_1P0, AW27 VDD_MIPI_DSI1_PLL_1P0, AW29 VDD_MIPI_DSI0_PLL_1P0, AW31 VDD_MIPI_DSI0_1P8, AW33 VDD_LVDS1_1P8, AW35 VDD_LVDS1_1P0, AW39 VDD_SNVS_LDO_1P8_CAP, M14 VDD_MLB_DIG_1P8_3P3, M16 VDD_USB_SS3_TC_3P3, M18 VDD_QSPI1A_1P8_3P3, M22 VDD_PCIE1_PLL_1P8, M24 VDD_PCIE_SATA0_1P0, M26 VDD_PCIE0_1P0, M30 VDD_USB_SS3_LDO_1P0_CAP, M32 VDD_USB_OTG1_1P0, M34 VDD_USB_OTG2_3P3, M36 VDD_USDHC1_1P8_3P3_1, M38 VDD_USDHC2_1P8_3P3_1, M40 VDD_ENET0_1P8_3P3_1, N15 VDD_FLEXCAN_1P8_3P3, N17 VDD_ENET_MDIO_1P8_2P5_3P3, N19 VDD_QSPI0_1P8_3P3, N21 VDD_PCIE_SATA0_PLL_1P8, N25 VDD_PCIE1_1P0, N27 VDD_PCIE0_PLL_1P8, N29 VDD_PCIE_LDO_1P0_CAP, N31 VDD_USB_OTG2_1P0, N33 VDD_USB_OTG1_3P3, N35 VDD_EMMC0_1P8_3P3, N37 VDD_USDHC1_1P8_3P3_2, N39 VDD_ENET0_1P8_3P3_2, T18 VDD_USDHC_VSELECT_1P8_3P3, T22 VDD_PCIE_DIG_1P8_3P3, T26 VDD_PCIE_IOB_1P8, T30 VDD_MLB_1P8, T34 VDD_MAIN_40, T38 VDD_ENET1_1P8_2P5_3P3, U15 VDD_DDR_CH1_VDDQ_7, U19 VDD_MAIN_41, U23 VDD_MAIN_42, U25 VDD_ANA1_1P8, U27 VDD_PCIE_LDO_1P8, U29 VDD_ANA0_1P8_1, U31 VDD_ANA0_1P8_2, U35 VDD_GPU1_7, U39 VDD_DDR_CH0_VDDQ_7, V16 VDD_DDR_CH1_VDDQ_8, V20 VDD_GPU0_7, V24 VDD_MAIN_43, V26 VDD_USB_HSIC0_1P2, V28 VDD_USB_HSIC0_1P8, V32 VDD_MAIN_44, V36 VDD_GPU1_8, V38 VDD_DDR_CH0_VDDQ_8, W15 VDD_DDR_CH1_VDDQ_9, W17 VDD_MEMC_14, W21 VDD_GPU0_8, W25 VDD_MAIN_45, W29 VDD_MAIN_46, W33 VDD_GPU1_9, W37 VDD_MEMC_15, W39 VDD_DDR_CH0_VDDQ_9, Y16 VDD_DDR_CH1_VDDQ_10, Y18 VDD_GPU0_9, Y22 VDD_GPU0_10, Y26 VDD_MAIN_47, Y30 VDD_MAIN_48, Y34 VDD_GPU1_10, Y38 VDD_DDR_CH0_VDDQ_10
part R pins: A51 VSS_MAIN_4, AA1 VSS_MAIN_5, AA3 VSS_MAIN_6, AA5 VSS_MAIN_7, AA7 VSS_MAIN_8, AA9 VSS_MAIN_9, AC19 VSS_MAIN_33, AC23 VSS_MAIN_34, AC27 VSS_MAIN_35, AC31 VSS_MAIN_36, AC35 VSS_MAIN_37, AC41 VSS_MAIN_38, AD2 VSS_MAIN_39, AD4 VSS_MAIN_40, AD6 VSS_MAIN_41, AD8 VSS_MAIN_42, AD10 VSS_MAIN_43, AD12 VSS_MAIN_44, AD20 VSS_MAIN_45, AD24 VSS_MAIN_46, AD28 VSS_MAIN_47, AD32 VSS_MAIN_48, AD36 VSS_MAIN_49, AD42 VSS_MAIN_50, AD44 VSS_MAIN_51, AD46 VSS_MAIN_52, AD48 VSS_MAIN_53, AD50 VSS_MAIN_54, AD52 VSS_MAIN_55, AE13 VSS_MAIN_56, AE17 VSS_MAIN_57, AE21 VSS_MAIN_58, AE25 VSS_MAIN_59, AE29 VSS_MAIN_60, AE33 VSS_MAIN_61, AE37 VSS_MAIN_62, AE41 VSS_MAIN_63, AF12 VSS_MAIN_64, AF18 VSS_MAIN_65, AF22 VSS_MAIN_66, AF26 VSS_MAIN_67, AF30 VSS_MAIN_68, AF34 VSS_MAIN_69, AF42 VSS_MAIN_70, AG1 VSS_MAIN_71, AG3 VSS_MAIN_72, AG5 VSS_MAIN_73, AG7 VSS_MAIN_74, AG9 VSS_MAIN_75, AG11 VSS_MAIN_76, AG13 VSS_MAIN_77, AG19 VSS_MAIN_78, AG23 VSS_MAIN_79, AG27 VSS_MAIN_80, AG31 VSS_MAIN_81, AG35 VSS_MAIN_82, AG41 VSS_MAIN_83, AG43 VSS_MAIN_84, AG45 VSS_MAIN_85, AG47 VSS_MAIN_86, AG49 VSS_MAIN_87, AG51 VSS_MAIN_88, AG53 VSS_MAIN_89, AH12 VSS_MAIN_90, AH20 VSS_MAIN_91, AH24 VSS_MAIN_92, AH28 VSS_MAIN_93, AH32 VSS_MAIN_94, AH36 VSS_MAIN_95, AH42 VSS_MAIN_96, AJ13 VSS_MAIN_97, AJ17 VSS_MAIN_98, AJ21 VSS_MAIN_99, AM10 VREFL_ADC, BK48 VSS_MAIN_508, BM48 VSS_MAIN_509, BM50 VSS_MAIN_510, BN51 VSS_MAIN_511, C11 VSS_MAIN_330, C15 VSS_MAIN_331, C19 VSS_MAIN_332, C21 VSS_MAIN_333, C23 VSS_MAIN_334, C29 VSS_MAIN_335, C31 VSS_MAIN_336, C33 VSS_MAIN_337, C41 VSS_MAIN_338, C43 VSS_MAIN_339, C49 VSS_MAIN_340, C53 VSS_MAIN_341, D6 VSS_MAIN_342, D16 VSS_MAIN_343, D18 VSS_MAIN_344, D24 VSS_MAIN_345, D26 VSS_MAIN_346, D28 VSS_MAIN_347, D34 VSS_MAIN_348, D36 VSS_MAIN_349, D38 VSS_MAIN_350, D40 VSS_MAIN_351, E9 VSS_MAIN_352, E19 VSS_MAIN_353, E21 VSS_MAIN_354, E47 VSS_MAIN_355, F2 VSS_MAIN_356, F4 VSS_MAIN_357, F12 VSS_MAIN_358, F24 VSS_MAIN_359, F32 VSS_MAIN_360, F36 VSS_MAIN_361, F44 VSS_MAIN_362, F50 VSS_MAIN_363, F52 VSS_MAIN_364, G5 VSS_MAIN_365, G9 VSS_MAIN_366, G15 VSS_MAIN_367, G21 VSS_MAIN_368, G23 VSS_MAIN_369, G27 VSS_MAIN_370, G33 VSS_MAIN_371, G39 VSS_MAIN_372, G49 VSS_MAIN_373, J1 VSS_MAIN_374, J3 VSS_MAIN_375, J5 VSS_MAIN_376, J7 VSS_MAIN_377, J13 VSS_MAIN_378, J15 VSS_MAIN_379, J17 VSS_MAIN_380, J19 VSS_MAIN_381, J21 VSS_MAIN_382, J23 VSS_MAIN_383, J25 VSS_MAIN_384, J29 VSS_MAIN_385, J31 VSS_MAIN_386, J35 VSS_MAIN_387, J37 VSS_MAIN_388, J41 VSS_MAIN_389, J47 VSS_MAIN_390, J49 VSS_MAIN_391, J51 VSS_MAIN_392, J53 VSS_MAIN_393, K8 VSS_MAIN_394, K12 VSS_MAIN_395, K14 VSS_MAIN_396, K16 VSS_MAIN_397, K18 VSS_MAIN_398, K20 VSS_MAIN_399, K22 VSS_MAIN_400, K24 VSS_MAIN_401, K26 VSS_MAIN_402, K28 VSS_MAIN_403, K30 VSS_MAIN_404, K32 VSS_MAIN_405, K34 VSS_MAIN_406, K36 VSS_MAIN_407, K38 VSS_MAIN_408, K40 VSS_MAIN_409, K42 VSS_MAIN_410, K46 VSS_MAIN_411, L11 VSS_MAIN_412, L13 VSS_MAIN_413, L15 VSS_MAIN_414, L17 VSS_MAIN_415, L19 VSS_MAIN_416, L21 VSS_MAIN_417, L23 VSS_MAIN_418, L25 VSS_MAIN_419, L27 VSS_MAIN_420, L29 VSS_MAIN_421, L31 VSS_MAIN_422, L33 VSS_MAIN_423, L35 VSS_MAIN_424, L37 VSS_MAIN_425, L39 VSS_MAIN_426, L41 VSS_MAIN_427, L43 VSS_MAIN_428, M2 VSS_MAIN_429, M4 VSS_MAIN_430, M6 VSS_MAIN_431, M8 VSS_MAIN_432, M10 VSS_MAIN_433, M44 VSS_MAIN_434, M46 VSS_MAIN_435, M48 VSS_MAIN_436, M50 VSS_MAIN_437, M52 VSS_MAIN_438, N13 VSS_MAIN_439, N41 VSS_MAIN_440, P12 VSS_MAIN_441, P42 VSS_MAIN_442, R1 VSS_MAIN_443, R3 VSS_MAIN_444, R5 VSS_MAIN_445, R7 VSS_MAIN_446, R9 VSS_MAIN_447, R11 VSS_MAIN_448, R15 VSS_MAIN_449, R17 VSS_MAIN_450, R19 VSS_MAIN_451, R21 VSS_MAIN_452, R23 VSS_MAIN_453, R25 VSS_MAIN_454, R27 VSS_MAIN_455, R29 VSS_MAIN_456, R31 VSS_MAIN_457, R33 VSS_MAIN_458, R35 VSS_MAIN_459, R37 VSS_MAIN_460, R39 VSS_MAIN_461, R43 VSS_MAIN_462, R45 VSS_MAIN_463, R47 VSS_MAIN_464, R49 VSS_MAIN_465, R51 VSS_MAIN_466, R53 VSS_MAIN_467, T12 VSS_MAIN_468, T16 VSS_MAIN_469, T20 VSS_MAIN_470, T24 VSS_MAIN_471, T28 VSS_MAIN_472, T32 VSS_MAIN_473, T36 VSS_MAIN_474, T42 VSS_MAIN_475, U17 VSS_MAIN_476, U21 VSS_MAIN_477, U33 VSS_MAIN_478, U37 VSS_MAIN_479, V2 VSS_MAIN_480, V4 VSS_MAIN_481, V6 VSS_MAIN_482, V8 VSS_MAIN_483, V10 VSS_MAIN_484, V12 VSS_MAIN_485, V18 VSS_MAIN_486, V22 VSS_MAIN_487, V30 VSS_MAIN_488, V34 VSS_MAIN_489, V42 VSS_MAIN_490, V44 VSS_MAIN_491, V46 VSS_MAIN_492, V48 VSS_MAIN_493, V50 VSS_MAIN_494, V52 VSS_MAIN_495, W19 VSS_MAIN_496, W23 VSS_MAIN_497, W27 VSS_MAIN_498, W31 VSS_MAIN_499, W35 VSS_MAIN_500, Y12 VSS_MAIN_501, Y20 VSS_MAIN_502, Y24 VSS_MAIN_503, Y28 VSS_MAIN_504, Y32 VSS_MAIN_505, Y36 VSS_MAIN_506, Y42 VSS_MAIN_507
part S pins: A3 VSS_MAIN_1, A23 VSS_MAIN_2, A31 VSS_MAIN_3, AA11 VSS_MAIN_10, AA13 VSS_MAIN_11, AA17 VSS_MAIN_12, AA21 VSS_MAIN_13, AA25 VSS_MAIN_14, AA29 VSS_MAIN_15, AA33 VSS_MAIN_16, AA37 VSS_MAIN_17, AA41 VSS_MAIN_18, AA43 VSS_MAIN_19, AA45 VSS_MAIN_20, AA47 VSS_MAIN_21, AA49 VSS_MAIN_22, AA51 VSS_MAIN_23, AA53 VSS_MAIN_24, AB12 VSS_MAIN_25, AB18 VSS_MAIN_26, AB22 VSS_MAIN_27, AB26 VSS_MAIN_28, AB30 VSS_MAIN_29, AB34 VSS_MAIN_30, AB42 VSS_MAIN_31, AC13 VSS_MAIN_32, AJ25 VSS_MAIN_100, AJ29 VSS_MAIN_101, AJ33 VSS_MAIN_102, AJ37 VSS_MAIN_103, AJ41 VSS_MAIN_104, AK2 VSS_MAIN_105, AK4 VSS_MAIN_106, AK6 VSS_MAIN_107, AK8 VSS_MAIN_108, AK10 VSS_MAIN_109, AK12 VSS_MAIN_110, AK18 VSS_MAIN_111, AK22 VSS_MAIN_112, AK26 VSS_MAIN_113, AK30 VSS_MAIN_114, AK34 VSS_MAIN_115, AK38 VSS_MAIN_116, AK44 VSS_MAIN_117, AK46 VSS_MAIN_118, AK48 VSS_MAIN_119, AK50 VSS_MAIN_120, AK52 VSS_MAIN_121, AL13 VSS_MAIN_122, AL19 VSS_MAIN_123, AL23 VSS_MAIN_124, AL27 VSS_MAIN_125, AL31 VSS_MAIN_126, AL35 VSS_MAIN_127, AL41 VSS_MAIN_128, AM8 VSS_MAIN_129, AM12 VSS_MAIN_130, AM20 VSS_MAIN_131, AM24 VSS_MAIN_132, AM28 VSS_MAIN_133, AM32 VSS_MAIN_134, AM36 VSS_MAIN_135, AM42 VSS_MAIN_136, AM46 VSS_MAIN_137, AN1 VSS_MAIN_138, AN3 VSS_MAIN_139, AN5 VSS_MAIN_140, AN7 VSS_MAIN_141, AN13 VSS_MAIN_142, AN17 VSS_MAIN_143, AN21 VSS_MAIN_144, AN25 VSS_MAIN_145, AN29 VSS_MAIN_146, AN33 VSS_MAIN_147, AN41 VSS_MAIN_148, AN43 VSS_MAIN_149, AN47 VSS_MAIN_150, AN49 VSS_MAIN_151, AN51 VSS_MAIN_152, AN53 VSS_MAIN_153, AP12 VSS_MAIN_154, AP18 VSS_MAIN_155, AP22 VSS_MAIN_156, AP26 VSS_MAIN_157, AP30 VSS_MAIN_158, AP34 VSS_MAIN_159, AR5 VSS_MAIN_160, AR11 VSS_MAIN_161, AR19 VSS_MAIN_162, AR23 VSS_MAIN_163, AR27 VSS_MAIN_164, AR31 VSS_MAIN_165, AR35 VSS_MAIN_166, AR49 VSS_MAIN_167, AT2 VSS_MAIN_168, AT4 VSS_MAIN_169, AT6 VSS_MAIN_170, AT8 VSS_MAIN_171, AT12 VSS_MAIN_172, AT16 VSS_MAIN_173, AT20 VSS_MAIN_174, AT24 VSS_MAIN_175, AT28 VSS_MAIN_176, AT32 VSS_MAIN_177, AT36 VSS_MAIN_178, AT42 VSS_MAIN_179, AT46 VSS_MAIN_180, AT50 VSS_MAIN_181, AT52 VSS_MAIN_182, AU17 VSS_MAIN_183, AU25 VSS_MAIN_184, AU31 VSS_MAIN_185, AU33 VSS_MAIN_186, AU37 VSS_MAIN_187, AV12 VSS_MAIN_188, AV38 VSS_MAIN_189, AV42 VSS_MAIN_190, AW3 VSS_MAIN_191, AW7 VSS_MAIN_192, AW11 VSS_MAIN_193, AW19 VSS_MAIN_194, AW23 VSS_MAIN_195, AW37 VSS_MAIN_196, AW43 VSS_MAIN_197, AW47 VSS_MAIN_198, AW51 VSS_MAIN_199, B6 VSS_MAIN_200, B12 VSS_MAIN_201, B14 VSS_MAIN_202, B18 VSS_MAIN_203, B28 VSS_MAIN_204, B36 VSS_MAIN_205, B46 VSS_MAIN_206, BA13 VSS_MAIN_207, BA15 VSS_MAIN_208, BA17 VSS_MAIN_209, BA19 VSS_MAIN_210, BA21 VSS_MAIN_211, BA23 VSS_MAIN_212, BA25 VSS_MAIN_213, BA27 VSS_MAIN_214, BA29 VSS_MAIN_215, BA31 VSS_MAIN_216, BA33 VSS_MAIN_217, BA35 VSS_MAIN_218, BA37 VSS_MAIN_219, BA39 VSS_MAIN_220, BA41 VSS_MAIN_221, BA45 VSS_MAIN_222, BB2 VSS_MAIN_223, BB6 VSS_MAIN_224, BB10 VSS_MAIN_225, BB14 VSS_MAIN_226, BB16 VSS_MAIN_227, BB18 VSS_MAIN_228, BB20 VSS_MAIN_229, BB22 VSS_MAIN_230, BB24 VSS_MAIN_231, BB26 VSS_MAIN_232, BB28 VSS_MAIN_233, BB30 VSS_MAIN_234, BB32 VSS_MAIN_235, BB34 VSS_MAIN_236, BB36 VSS_MAIN_237, BB38 VSS_MAIN_238, BB40 VSS_MAIN_239, BB48 VSS_MAIN_240, BB52 VSS_MAIN_241, BC11 VSS_MAIN_242, BC13 VSS_MAIN_243, BC15 VSS_MAIN_244, BC17 VSS_MAIN_245, BC19 VSS_MAIN_246, BC21 VSS_MAIN_247, BC23 VSS_MAIN_248, BC25 VSS_MAIN_249, BC27 VSS_MAIN_250, BC29 VSS_MAIN_251, BC31 VSS_MAIN_252, BC33 VSS_MAIN_253, BC35 VSS_MAIN_254, BC37 VSS_MAIN_255, BC39 VSS_MAIN_256, BC41 VSS_MAIN_257, BC43 VSS_MAIN_258, BD14 VSS_MAIN_259, BD16 VSS_MAIN_260, BD18 VSS_MAIN_261, BD20 VSS_MAIN_262, BD22 VSS_MAIN_263, BD24 VSS_MAIN_264, BD26 VSS_MAIN_265, BD48 VSS_MAIN_267, BD50 VSS_MAIN_268, BE3 VSS_MAIN_269, BE7 VSS_MAIN_270, BE9 VSS_MAIN_271, BE45 VSS_MAIN_266, BF4 VSS_MAIN_272, BF26 VSS_MAIN_273, BF28 VSS_MAIN_274, BF30 VSS_MAIN_275, BF32 VSS_MAIN_276, BF34 VSS_MAIN_277, BF36 VSS_MAIN_278, BF38 VSS_MAIN_279, BF40 VSS_MAIN_280, BF42 VSS_MAIN_281, BF44 VSS_MAIN_282, BF52 VSS_MAIN_283, BG7 VSS_MAIN_284, BG11 VSS_MAIN_285, BG13 VSS_MAIN_286, BG15 VSS_MAIN_287, BG17 VSS_MAIN_288, BG19 VSS_MAIN_289, BG21 VSS_MAIN_290, BG23 VSS_MAIN_291, BG47 VSS_MAIN_292, BH4 VSS_MAIN_293, BH22 VSS_MAIN_294, BJ3 VSS_MAIN_295, BJ5 VSS_MAIN_296, BJ25 VSS_MAIN_297, BJ27 VSS_MAIN_298, BJ29 VSS_MAIN_299, BJ31 VSS_MAIN_300, BJ33 VSS_MAIN_301, BJ35 VSS_MAIN_302, BJ37 VSS_MAIN_303, BJ39 VSS_MAIN_304, BJ41 VSS_MAIN_305, BJ43 VSS_MAIN_306, BJ45 VSS_MAIN_307, BJ47 VSS_MAIN_308, BJ49 VSS_MAIN_309, BJ51 VSS_MAIN_310, BK6 VSS_MAIN_311, BK8 VSS_MAIN_312, BK10 VSS_MAIN_313, BK12 VSS_MAIN_314, BK14 VSS_MAIN_315, BK16 VSS_MAIN_316, BK18 VSS_MAIN_317, BK20 VSS_MAIN_318, BK22 VSS_MAIN_319, BK46 VSS_MAIN_320, BL1 VSS_MAIN_321, BL21 VSS_MAIN_322, BL53 VSS_MAIN_323, BM10 VSS_MAIN_324, BM46 VSS_MAIN_325, BN3 VSS_MAIN_326, BN21 VSS_MAIN_327, C1 VSS_MAIN_328, C9 VSS_MAIN_329
part T pins: C3 FLEXCAN2_RX, C5 FLEXCAN0_RX, E5 FLEXCAN1_RX, E7 FLEXCAN2_TX, G7 FLEXCAN1_TX, H6 FLEXCAN0_TX
part U pins: AM44 M40_I2C0_SCL, AP44 M41_GPIO0_00, AR43 UART1_RTS_B, AR45 M41_I2C0_SCL, AR47 M40_GPIO0_00, AT44 UART1_RX, AU45 UART0_RTS_B, AU47 M41_GPIO0_01, AU49 M41_I2C0_SDA, AU51 M40_I2C0_SDA, AU53 M40_GPIO0_01, AV46 UART1_CTS_B, AV48 UART0_TX, AV50 UART0_RX, AV52 GPT0_CAPTURE, AW49 UART0_CTS_B, AW53 GPT0_COMPARE, AY48 UART1_TX, AY50 GPT1_CAPTURE, AY52 GPT0_CLK, BA51 GPT1_COMPARE, BA53 GPT1_CLK
part A text: DDR4 + LPDDR4 / controller 0; DCF   LPDDR4        DDR4; 00 / 01 / 02 / 03 / 04 / 05 / 06 / 07 / 08 / 09 / 10 / 11 / 12 / 13 / 14 / 15 / 16; CA2_A / CA4_A / - / CA5_A / - / - / - / - / CA3_A / - / CS0_A / CA0_A / CS1_A / - / CKE0_A / CKE1_A / CA1_A; A5 / A6 / ALERT_N / A7 / A8 / A9 / BG1 / ACT_N / A3 / ODT / A1 / A0 / A2 / PARITY / - / - / A4; 17 / 18 / 19 / 20 / 21 / 22 / 23 / 24 / 25 / 26 / 27 / 28 / 29 / 30 / 31 / 32 / 33; CA4_B / RESET_N / CA5_B / - / - / - / - / - / - / CA3_B / CA0_B / CS0_B / CS1_B / CKE0_B / CKE1_B / CA1_B / CA2_B; A12 / RESET_N / A14 / A15 / BA0 / BA1 / BG0 / A17 / ODT1 / A13 / A10 / CS_N[0] / CS_N[1] / CKE0 / CKE1 / A11 / A16
part B text: DDR4 + LPDDR4 / controller 1; DCF   LPDDR4        DDR4; 00 / 01 / 02 / 03 / 04 / 05 / 06 / 07 / 08 / 09 / 10 / 11 / 12 / 13 / 14 / 15 / 16; CA2_A / CA4_A / - / CA5_A / - / - / - / - / CA3_A / - / CS0_A / CA0_A / CS1_A / - / CKE0_A / CKE1_A / CA1_A; A5 / A6 / ALERT_N / A7 / A8 / A9 / BG1 / ACT_N / A3 / ODT / A1 / A0 / A2 / PARITY / - / - / A4; 17 / 18 / 19 / 20 / 21 / 22 / 23 / 24 / 25 / 26 / 27 / 28 / 29 / 30 / 31 / 32 / 33; CA4_B / RESET_N / CA5_B / - / - / - / - / - / - / CA3_B / CA0_B / CS0_B / CS1_B / CKE0_B / CKE1_B / CA1_B / CA2_B; A12 / RESET_N / A14 / A15 / BA0 / BA1 / BG0 / A17 / ODT1 / A13 / A10 / CS_N[0] / CS_N[1] / CKE0 / CKE1 / A11 / A16
part C text: VDD_USDHC1_1P8_3P3; VDD_USDHC2_1P8_3P3
part D text: HDMI - RX; DP & HDMI - TX
part F text: 1.8V Only
part J text: VDD_ESAI0_MCLK_1P8_3P3; VDD_SPI_SAI_1P8_3P3
part L text: VDD_SCU_1P8
part M text: VDD_ENET0_1P8_3P3
part P text: 1.8V only
part Q text: tie these 7 together to / separate 1.8V supply; Charge-Pump; tie these 19 together to / separate 1.8V supply; LDO; 3.0V - 4.2V input; tie these two  to common / digital 1.8V only; for each block, / choose appropriate / voltage per application / 1.8V or 3.3V; 1.8V, 2.5V or 3.3V / for these two blocks / (noted in ball name); tie these two  to common / digital 3.3V only; tie these together / share with VDD_MAIN supply / filter as documented; tie to 3.3V / filter as / documented
part U text: VDD_M4_GPT_UART_1P8_3P3

## IMXRT1064
designator U?
pins: A1 VSS1 (power), A2 GPIO_EMC_27 (io), A3 GPIO_EMC_20 (io), A4 GPIO_EMC_17 (io), A5 GPIO_EMC_16 (io), A6 GPIO_EMC_13 (io), A7 GPIO_EMC_40 (io), A8 GPIO_B0_06 (io), A9 GPIO_B0_07 (io), A10 GPIO_B0_11 (io), A11 GPIO_B1_00 (io), A12 GPIO_B1_08 (io), A13 GPIO_B1_09 (io), A14 VSS2 (power), B1 GPIO_EMC_15 (io), B2 GPIO_EMC_18 (io), B3 GPIO_EMC_26 (io), B4 GPIO_EMC_19 (io), B5 VSS3 (power), B6 GPIO_EMC_14 (io), B7 GPIO_EMC_39 (io), B8 GPIO_B0_05 (io), B9 GPIO_B0_08 (io), B10 VSS4 (power), B11 GPIO_B1_01 (io), B12 GPIO_B1_07 (io), B13 GPIO_B1_10 (io), B14 GPIO_B1_15 (io), C1 GPIO_EMC_21 (io), C2 GPIO_EMC_09 (io), C3 GPIO_EMC_36 (io), C4 GPIO_EMC_33 (io), C5 GPIO_EMC_31 (io), C6 GPIO_EMC_30 (io), C7 GPIO_EMC_41 (io), C8 GPIO_B0_04 (io), C9 GPIO_B0_09 (io), C10 GPIO_B0_12 (io), C11 GPIO_B1_02 (io), C12 GPIO_B1_06 (io), C13 GPIO_B1_11 (io), C14 GPIO_B1_14 (io), D1 GPIO_EMC_28 (io), D2 GPIO_EMC_25 (io), D3 GPIO_EMC_24 (io), D4 GPIO_EMC_34 (io), D5 GPIO_EMC_32 (io), D6 GPIO_EMC_38 (io), D7 GPIO_B0_00 (io), D8 GPIO_B0_03 (io), D9 GPIO_B0_10 (io), D10 GPIO_B0_13 (io), D11 GPIO_B1_03 (io), D12 GPIO_B1_05 (io), D13 GPIO_B1_12 (io), D14 GPIO_B1_13 (io), E1 GPIO_EMC_29 (io), E2 VSS5 (power), E3 GPIO_EMC_00 (io), E4 GPIO_EMC_37 (io), E5 GPIO_EMC_35 (io), E6 NVCC_EMC_1 (power), E7 GPIO_B0_01 (io), E8 GPIO_B0_02 (io), E9 NVCC_GPIO_1 (power), E10 GPIO_B0_14 (io), E11 GPIO_B0_15 (io), E12 GPIO_B1_04 (io), E13 VSS6 (power), E14 GPIO_AD_B0_06 (io), F1 GPIO_EMC_22 (io), F2 GPIO_EMC_04 (io), F3 GPIO_EMC_01 (io), F4 GPIO_EMC_02 (io), F5 NVCC_EMC_2 (power), F6 VDD_SOC_IN_1 (power), F7 VDD_SOC_IN_2 (power), F8 VDD_SOC_IN_3 (power), F9 VDD_SOC_IN_4 (power), F10 NVCC_GPIO_2 (power), F11 GPIO_AD_B0_04 (io), F12 GPIO_AD_B0_07 (io), F13 GPIO_AD_B0_08 (io), F14 GPIO_AD_B0_09 (io), G1 GPIO_EMC_10 (io), G2 GPIO_EMC_23 (io), G3 GPIO_EMC_11 (io), G4 GPIO_EMC_03 (io), G5 GPIO_EMC_05 (io), G6 VDD_SOC_IN_5 (power), G7 VSS7 (power), G8 VSS8 (power), G9 VDD_SOC_IN_6 (power), G10 GPIO_AD_B0_11 (io), G11 GPIO_AD_B0_03 (io), G12 GPIO_AD_B1_14 (io), G13 GPIO_AD_B0_10 (io), G14 GPIO_AD_B0_05 (io), H1 GPIO_EMC_12 (io), H2 GPIO_SD_B0_04 (io), H3 GPIO_EMC_08 (io), H4 GPIO_EMC_07 (io), H5 GPIO_EMC_06 (io), H6 VDD_SOC_IN_7 (power), H7 VSS9 (power), H8 VSS10 (power), H9 VDD_SOC_IN_8 (power), H10 GPIO_AD_B0_01 (io), H11 GPIO_AD_B1_13 (io), H12 GPIO_AD_B1_12 (io), H13 GPIO_AD_B1_08 (io), H14 GPIO_AD_B0_14 (io), J1 GPIO_SD_B0_02 (io), J2 GPIO_SD_B0_05 (io), J3 GPIO_SD_B0_01 (io), J4 GPIO_SD_B0_00 (io), J5 DCDC_SENSE, J6 NVCC_SD0 (power), J7 VSS11 (power), J8 VSS12 (power), J9 VDD_SOC_IN_9 (power), J10 NVCC_GPIO_3 (power), J11 GPIO_AD_B1_00 (io), J12 GPIO_AD_B1_06 (io), J13 GPIO_AD_B1_11 (io), J14 GPIO_AD_B1_15 (io), K1 GPIO_SD_B0_03 (io), K2 VSS13 (power), K3 DCDC_PSWITCH, K4 DCDC_IN_Q, K5 NVCC_SD1 (power), K6 TEST_MODE, K7 PMIC_ON_REQ, K8 VDD_USB_CAP (power), K9 NGND_KEL0 (power), K10 GPIO_AD_B1_07 (io), K11 GPIO_AD_B1_01 (io), K12 GPIO_AD_B1_05 (io), K13 VSS14 (power), K14 GPIO_AD_B0_12 (io), L1 DCDC_IN_1, L2 DCDC_IN_2, L3 GPIO_SD_B1_06 (io), L4 GPIO_SD_B1_07 (io), L5 GPIO_SD_B1_00 (io), L6 WAKEUP, L7 PMIC_STBY_REQ, L8 USB_OTG1_DP (io), L9 VSS15 (power), L10 GPIO_AD_B0_15 (io), L11 GPIO_AD_B1_02 (io), L12 GPIO_AD_B1_04 (io), L13 GPIO_AD_B1_10 (io), L14 GPIO_AD_B0_13 (io), M1 DCDC_LP_1, M2 DCDC_LP_2, M3 GPIO_SD_B1_02 (io), M4 GPIO_SD_B1_03 (io), M5 GPIO_SD_B1_01 (io), M6 ONOFF (in), M7 ~{POR}, M8 USB_OTG1_DN (io), M9 VDD_SNVS_IN (power), M10 VDD_SNVS_CAP (power), M11 GPIO_AD_B0_02 (io), M12 GPIO_AD_B1_03 (io), M13 GPIO_AD_B1_09 (io), M14 GPIO_AD_B0_00 (io), N1 DCDC_GND_1 (power), N2 DCDC_GND_2 (power), N3 GPIO_SD_B1_05 (io), N4 GPIO_SD_B1_09 (io), N5 VSS16 (power), N6 USB_OTG1_VBUS (power), N7 USB_OTG2_DN (io), N8 VSS17 (power), N9 RTC_XTALI (in), N10 GPANAIO (power), N11 XTALO (out), N12 ~{USB_OTG1_CHD} (io), N13 CCM_CLK1_P, N14 VDDA_ADC_3P3 (power), P1 VSS18 (power), P2 GPIO_SD_B1_04 (io), P3 GPIO_SD_B1_08 (io), P4 GPIO_SD_B1_10 (io), P5 GPIO_SD_B1_11 (io), P6 USB_OTG2_VBUS (power), P7 USB_OTG2_DP (io), P8 VDD_HIGH_CAP (power), P9 RTC_XTALO (out), P10 NVCC_PLL (power), P11 XTALI (in), P12 VDD_HIGH_IN (power), P13 CCM_CLK1_N, P14 VSS19 (power)
text: Internal Test Only

## MMPF0100
designator U?
pins: 1 ~{INT} (out), 2 ~{SDWN} (out), 3 ~{RESETMCU} (out), 4 STANDBY (in), 5 ICTEST (in), 6 SW1FB (in), 7 SW1AIN (in), 8 SW1ALX (out), 9 SW1BLX (out), 10 SW1BIN (in), 11 SW1CLX (out), 12 SW1CIN (in), 13 SW1CFB (in), 14 SW1VSSSNS (power), 15 GNDREF1 (power), 16 VGEN1 (power), 17 VIN1 (in), 18 VGEN2 (power), 19 SW4FB (in), 20 SW4IN (in), 21 SW4LX (out), 22 SW2LX (out), 23 SW2IN_1 (in), 24 SW2IN_2 (in), 25 SW2FB (in), 26 VGEN3 (power), 27 VIN2 (in), 28 VGEN4 (power), 29 VHALF (in), 30 VINREFDDR (in), 31 VREFDDR (out), 32 SW3VSSSNS (power), 33 SW3BFB (in), 34 SW3BIN (in), 35 SW3BLX (out), 36 SW3ALX (out), 37 SW3AIN (in), 38 SW3AFB (in), 39 VGEN5 (power), 40 VIN3 (in), 41 VGEN6 (power), 42 LICELL (power), 43 VSNVS (power), 44 SWBSTFB (in), 45 SWBSTIN (in), 46 SWBSTLX (out), 47 VDDOTP (power), 48 GNDREF (power), 49 VCORE (power), 50 VIN (in), 51 VCOREDIG (power), 52 VCOREREF (power), 53 SDA (io), 54 SCL (in), 55 VDDIO (power), 56 PWRON (in), P GND
text: 0.3 ~ 1.875V, 2.5A; 0.3 ~ 1.875V, 2A; 0.4 ~ 3.3V, 2A; 0.4 ~ 3.3V, 1.25A; 0.4 ~ 3.3V, 1A; 5.15V, 600mA; 0.8 ~ 1.55V, 100mA; 0.8 ~ 1.55V, 250mA; 1.8 ~ 3.3V, 100mA; 1.8 ~ 3.3V, 350mA; 1.8 ~ 3.3V, 200mA

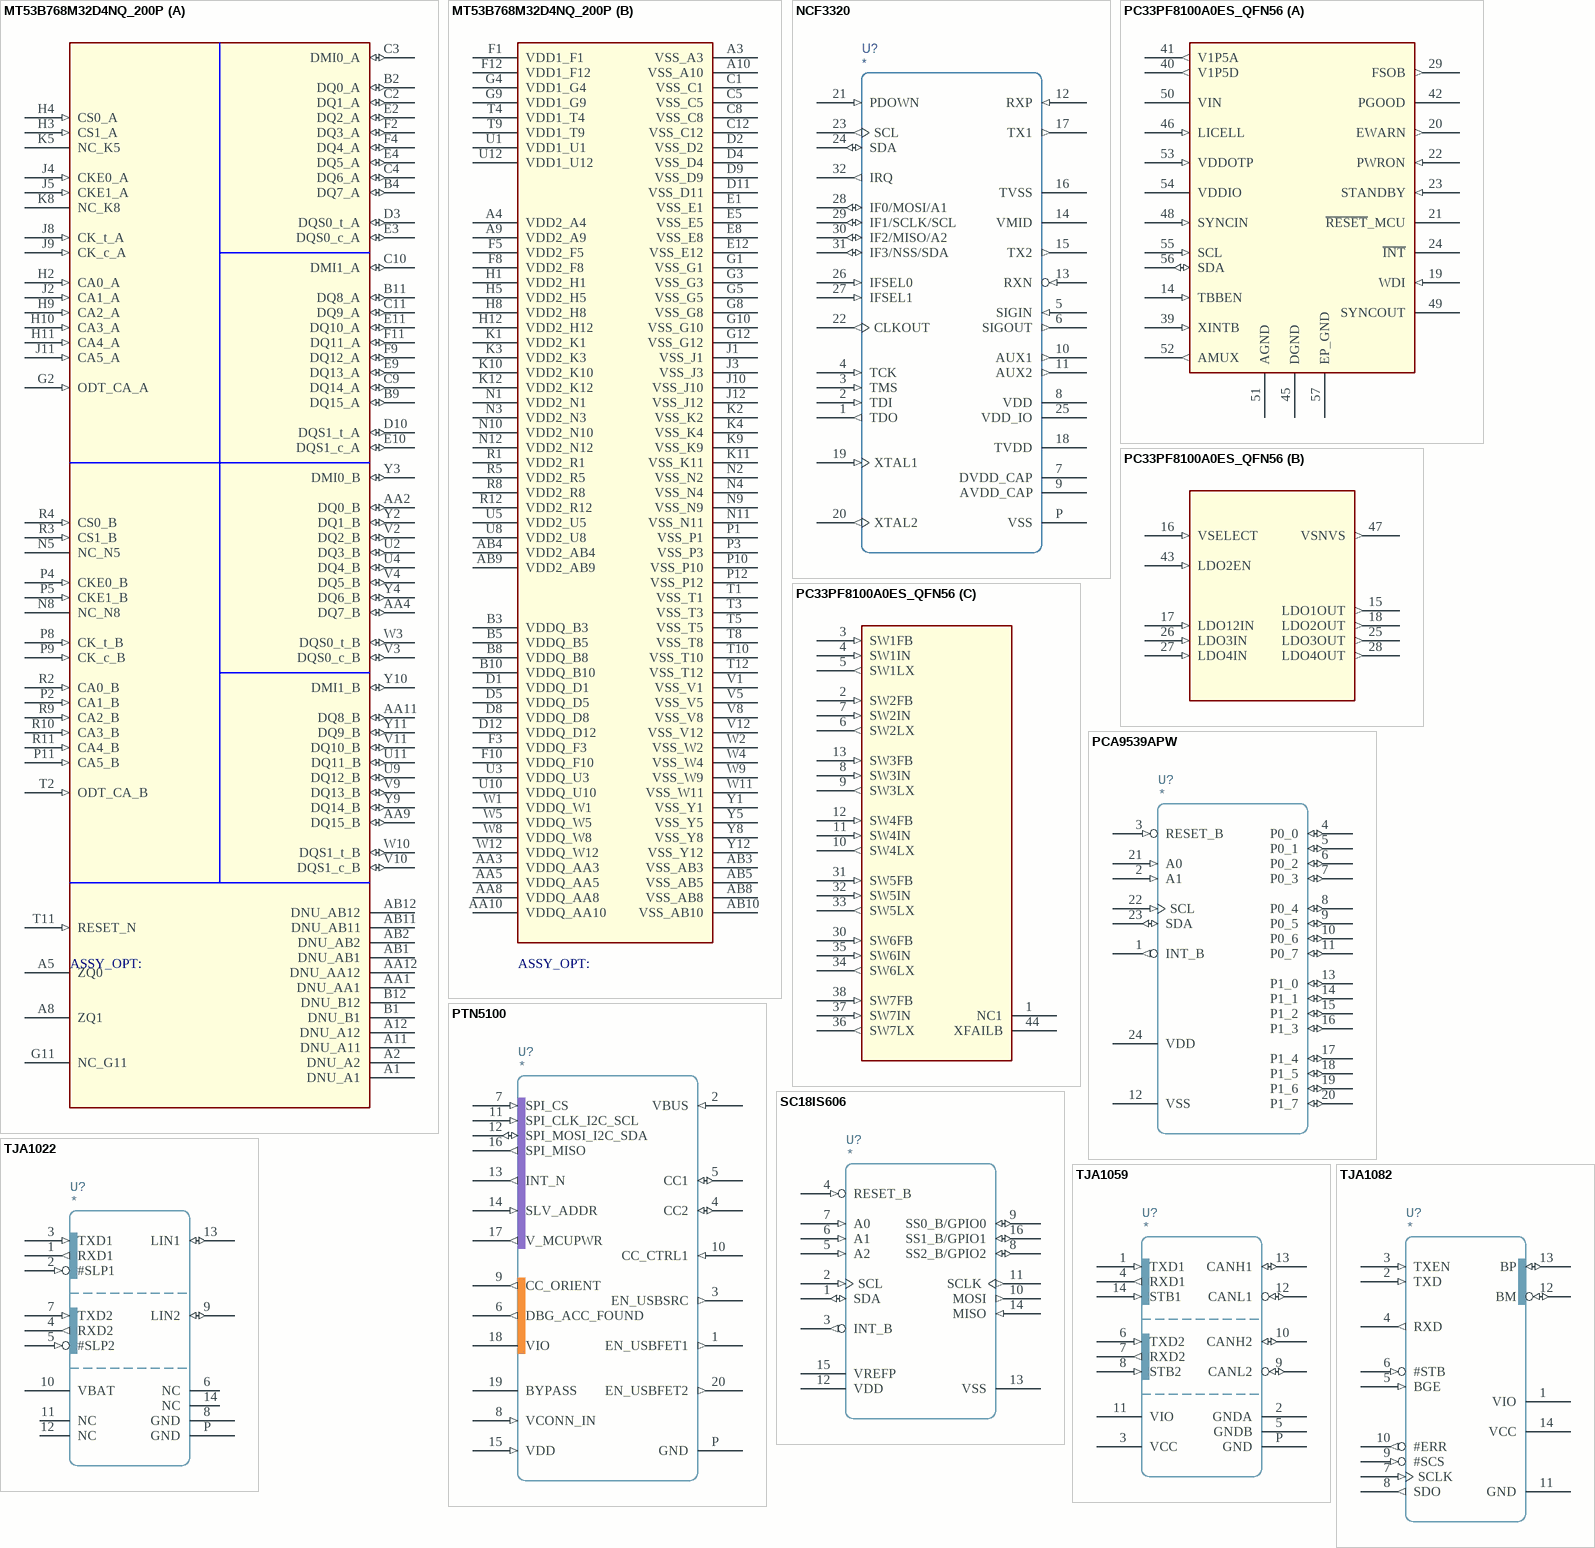
[diagram p6: symbols MT53B768M32D4NQ_200P to TJA1082]

## MT53B768M32D4NQ_200P
designator U?
SWAP_INFO: (S1+S2); SPLIT_INST: TRUE; CLASS: IC
part A pins: A1 DNU_A1, A2 DNU_A2, A5 ZQ0, A8 ZQ1, A11 DNU_A11, A12 DNU_A12, AA1 DNU_AA1, AA2 DQ0_B (io), AA4 DQ7_B (io), AA9 DQ15_B (io), AA11 DQ8_B (io), AA12 DNU_AA12, AB1 DNU_AB1, AB2 DNU_AB2, AB11 DNU_AB11, AB12 DNU_AB12, B1 DNU_B1, B2 DQ0_A (io), B4 DQ7_A (io), B9 DQ15_A (io), B11 DQ8_A (io), B12 DNU_B12, C2 DQ1_A (io), C3 DMI0_A (io), C4 DQ6_A (io), C9 DQ14_A (io), C10 DMI1_A (io), C11 DQ9_A (io), D3 DQS0_t_A (io), D10 DQS1_t_A (io), E2 DQ2_A (io), E3 DQS0_c_A (io), E4 DQ5_A (io), E9 DQ13_A (io), E10 DQS1_c_A (io), E11 DQ10_A (io), F2 DQ3_A (io), F4 DQ4_A (io), F9 DQ12_A (io), F11 DQ11_A (io), G2 ODT_CA_A (in), G11 NC_G11, H2 CA0_A (in), H3 CS1_A (in), H4 CS0_A (in), H9 CA2_A (in), H10 CA3_A (in), H11 CA4_A (in), J2 CA1_A (in), J4 CKE0_A (in), J5 CKE1_A (in), J8 CK_t_A (in), J9 CK_c_A (in), J11 CA5_A (in), K5 NC_K5, K8 NC_K8, N5 NC_N5, N8 NC_N8, P2 CA1_B (in), P4 CKE0_B (in), P5 CKE1_B (in), P8 CK_t_B (in), P9 CK_c_B (in), P11 CA5_B (in), R2 CA0_B (in), R3 CS1_B (in), R4 CS0_B (in), R9 CA2_B (in), R10 CA3_B (in), R11 CA4_B (in), T2 ODT_CA_B (in), T11 RESET_N (in), U2 DQ3_B (io), U4 DQ4_B (io), U9 DQ12_B (io), U11 DQ11_B (io), V2 DQ2_B (io), V3 DQS0_c_B (io), V4 DQ5_B (io), V9 DQ13_B (io), V10 DQS1_c_B (io), V11 DQ10_B (io), W3 DQS0_t_B (io), W10 DQS1_t_B (io), Y2 DQ1_B (io), Y3 DMI0_B (io), Y4 DQ6_B (io), Y9 DQ14_B (io), Y10 DMI1_B (io), Y11 DQ9_B (io)
part B pins: A3 VSS_A3 (power), A4 VDD2_A4 (power), A9 VDD2_A9 (power), A10 VSS_A10 (power), AA3 VDDQ_AA3 (power), AA5 VDDQ_AA5 (power), AA8 VDDQ_AA8 (power), AA10 VDDQ_AA10 (power), AB3 VSS_AB3 (power), AB4 VDD2_AB4 (power), AB5 VSS_AB5 (power), AB8 VSS_AB8 (power), AB9 VDD2_AB9 (power), AB10 VSS_AB10 (power), B3 VDDQ_B3 (power), B5 VDDQ_B5 (power), B8 VDDQ_B8 (power), B10 VDDQ_B10 (power), C1 VSS_C1 (power), C5 VSS_C5 (power), C8 VSS_C8 (power), C12 VSS_C12 (power), D1 VDDQ_D1 (power), D2 VSS_D2 (power), D4 VSS_D4 (power), D5 VDDQ_D5 (power), D8 VDDQ_D8 (power), D9 VSS_D9 (power), D11 VSS_D11 (power), D12 VDDQ_D12 (power), E1 VSS_E1 (power), E5 VSS_E5 (power), E8 VSS_E8 (power), E12 VSS_E12 (power), F1 VDD1_F1 (power), F3 VDDQ_F3 (power), F5 VDD2_F5 (power), F8 VDD2_F8 (power), F10 VDDQ_F10 (power), F12 VDD1_F12 (power), G1 VSS_G1 (power), G3 VSS_G3 (power), G4 VDD1_G4 (power), G5 VSS_G5 (power), G8 VSS_G8 (power), G9 VDD1_G9 (power), G10 VSS_G10 (power), G12 VSS_G12 (power), H1 VDD2_H1 (power), H5 VDD2_H5 (power), H8 VDD2_H8 (power), H12 VDD2_H12 (power), J1 VSS_J1 (power), J3 VSS_J3 (power), J10 VSS_J10 (power), J12 VSS_J12 (power), K1 VDD2_K1 (power), K2 VSS_K2 (power), K3 VDD2_K3 (power), K4 VSS_K4 (power), K9 VSS_K9 (power), K10 VDD2_K10 (power), K11 VSS_K11 (power), K12 VDD2_K12 (power), N1 VDD2_N1 (power), N2 VSS_N2 (power), N3 VDD2_N3 (power), N4 VSS_N4 (power), N9 VSS_N9 (power), N10 VDD2_N10 (power), N11 VSS_N11 (power), N12 VDD2_N12 (power), P1 VSS_P1 (power), P3 VSS_P3 (power), P10 VSS_P10 (power), P12 VSS_P12 (power), R1 VDD2_R1 (power), R5 VDD2_R5 (power), R8 VDD2_R8 (power), R12 VDD2_R12 (power), T1 VSS_T1 (power), T3 VSS_T3 (power), T4 VDD1_T4 (power), T5 VSS_T5 (power), T8 VSS_T8 (power), T9 VDD1_T9 (power), T10 VSS_T10 (power), T12 VSS_T12 (power), U1 VDD1_U1 (power), U3 VDDQ_U3 (power), U5 VDD2_U5 (power), U8 VDD2_U8 (power), U10 VDDQ_U10 (power), U12 VDD1_U12 (power), V1 VSS_V1 (power), V5 VSS_V5 (power), V8 VSS_V8 (power), V12 VSS_V12 (power), W1 VDDQ_W1 (power), W2 VSS_W2 (power), W4 VSS_W4 (power), W5 VDDQ_W5 (power), W8 VDDQ_W8 (power), W9 VSS_W9 (power), W11 VSS_W11 (power), W12 VDDQ_W12 (power), Y1 VSS_Y1 (power), Y5 VSS_Y5 (power), Y8 VSS_Y8 (power), Y12 VSS_Y12 (power)

## NCF3320
designator U?
pins: 1 TDO (out), 2 TDI (in), 3 TMS (in), 4 TCK (in), 5 SIGIN (in), 6 SIGOUT (out), 7 DVDD_CAP, 8 VDD, 9 AVDD_CAP, 10 AUX1 (out), 11 AUX2 (out), 12 RXP (in), 13 RXN (in), 14 VMID, 15 TX2 (out), 16 TVSS, 17 TX1 (out), 18 TVDD, 19 XTAL1 (in), 20 XTAL2 (out), 21 PDOWN (in), 22 CLKOUT (out), 23 SCL (out), 24 SDA (io), 25 VDD_IO, 26 IFSEL0 (in), 27 IFSEL1 (in), 28 IF0/MOSI/A1 (io), 29 IF1/SCLK/SCL (io), 30 IF2/MISO/A2 (io), 31 IF3/NSS/SDA (io), 32 IRQ (out), P VSS

## PC33PF8100A0ES_QFN56
designator U?
CLASS: IC; SPLIT_INST: TRUE; SWAP_INFO: (S1+S2+S3)
part A pins: 14 TBBEN (in), 19 WDI (in), 20 EWARN (out), 21 ~{RESET}_MCU (oc), 22 PWRON (in), 23 STANDBY (in), 24 ~{INT} (oc), 29 FSOB (out), 39 XINTB (in), 40 V1P5D (out), 41 V1P5A (out), 42 PGOOD (oc), 45 DGND (power), 46 LICELL (in), 48 SYNCIN (in), 49 SYNCOUT, 50 VIN (power), 51 AGND (power), 52 AMUX (out), 53 VDDOTP (in), 54 VDDIO (power), 55 SCL (in), 56 SDA (io), 57 EP_GND (power)
part B pins: 15 LDO1OUT (out), 16 VSELECT (in), 17 LDO12IN (in), 18 LDO2OUT (out), 25 LDO3OUT (out), 26 LDO3IN (in), 27 LDO4IN (in), 28 LDO4OUT (out), 43 LDO2EN (in), 47 VSNVS (out)
part C pins: 1 NC1, 2 SW2FB (in), 3 SW1FB (in), 4 SW1IN (in), 5 SW1LX (out), 6 SW2LX (out), 7 SW2IN (in), 8 SW3IN (in), 9 SW3LX (out), 10 SW4LX (out), 11 SW4IN (in), 12 SW4FB (in), 13 SW3FB (in), 30 SW6FB (in), 31 SW5FB (in), 32 SW5IN (in), 33 SW5LX (out), 34 SW6LX (out), 35 SW6IN (in), 36 SW7LX (out), 37 SW7IN (in), 38 SW7FB (in), 44 XFAILB

## PCA9539APW
designator U?
pins: 1 INT_B (out), 2 A1 (in), 3 RESET_B (in), 4 P0_0 (io), 5 P0_1 (io), 6 P0_2 (io), 7 P0_3 (io), 8 P0_4 (io), 9 P0_5 (io), 10 P0_6 (io), 11 P0_7 (io), 12 VSS, 13 P1_0 (io), 14 P1_1 (io), 15 P1_2 (io), 16 P1_3 (io), 17 P1_4 (io), 18 P1_5 (io), 19 P1_6 (io), 20 P1_7 (io), 21 A0 (in), 22 SCL (in), 23 SDA (io), 24 VDD

## PTN5100
designator U?
pins: 1 EN_USBFET1 (out), 2 VBUS (in), 3 EN_USBSRC (out), 4 CC2 (io), 5 CC1 (io), 6 DBG_ACC_FOUND (out), 7 SPI_CS (in), 8 VCONN_IN (in), 9 CC_ORIENT (out), 10 CC_CTRL1 (in), 11 SPI_CLK_I2C_SCL (in), 12 SPI_MOSI_I2C_SDA (io), 13 INT_N (out), 14 SLV_ADDR (in), 15 VDD (in), 16 SPI_MISO (out), 17 V_MCUPWR (out), 18 VIO, 19 BYPASS, 20 EN_USBFET2 (out), P GND

## SC18IS606
designator U?
pins: 1 SDA (io), 2 SCL (in), 3 INT_B (out), 4 RESET_B (in), 5 A2 (in), 6 A1 (in), 7 A0 (in), 8 SS2_B/GPIO2 (io), 9 SS0_B/GPIO0 (io), 10 MOSI (out), 11 SCLK (out), 12 VDD, 13 VSS, 14 MISO (in), 15 VREFP, 16 SS1_B/GPIO1 (io)

## TJA1022
designator U?
pins: 1 RXD1 (out), 2 #SLP1 (in), 3 TXD1 (in), 4 RXD2 (out), 5 #SLP2 (in), 6 NC, 7 TXD2 (in), 8 GND, 9 LIN2 (io), 10 VBAT, 11 NC, 12 NC, 13 LIN1 (io), 14 NC, P GND

## TJA1059
designator U?
pins: 1 TXD1 (in), 2 GNDA, 3 VCC, 4 RXD1 (out), 5 GNDB, 6 TXD2 (in), 7 RXD2 (out), 8 STB2 (in), 9 CANL2 (io), 10 CANH2 (io), 11 VIO, 12 CANL1 (io), 13 CANH1 (io), 14 STB1 (in), P GND

## TJA1082
designator U?
pins: 1 VIO, 2 TXD (in), 3 TXEN (in), 4 RXD (out), 5 BGE (in), 6 #STB (in), 7 SCLK (in), 8 SDO (out), 9 #SCS (in), 10 #ERR (out), 11 GND, 12 BM (io), 13 BP (io), 14 VCC

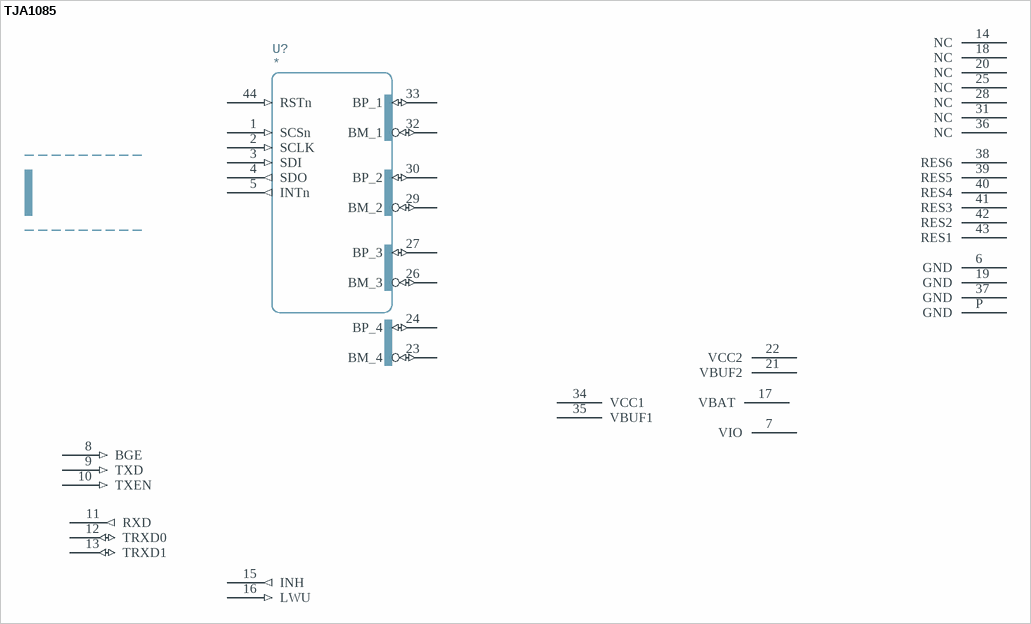
[diagram p7: symbol TJA1085]

## TJA1085
designator U?
pins: 1 SCSn (in), 2 SCLK (in), 3 SDI (in), 4 SDO (out), 5 INTn (out), 6 GND, 7 VIO, 8 BGE (in), 9 TXD (in), 10 TXEN (in), 11 RXD (out), 12 TRXD0 (io), 13 TRXD1 (io), 14 NC, 15 INH (out), 16 LWU (in), 17 VBAT, 18 NC, 19 GND, 20 NC, 21 VBUF2, 22 VCC2, 23 BM_4 (io), 24 BP_4 (io), 25 NC, 26 BM_3 (io), 27 BP_3 (io), 28 NC, 29 BM_2 (io), 30 BP_2 (io), 31 NC, 32 BM_1 (io), 33 BP_1 (io), 34 VCC1, 35 VBUF1, 36 NC, 37 GND, 38 RES6, 39 RES5, 40 RES4, 41 RES3, 42 RES2, 43 RES1, 44 RSTn (in), P GND